# Altium schematic symbol library ADP_MyLib.SchLib: 203 symbols (part 1 of 4)
Pins are listed as number, name and electrical type; pins without a type are passive.

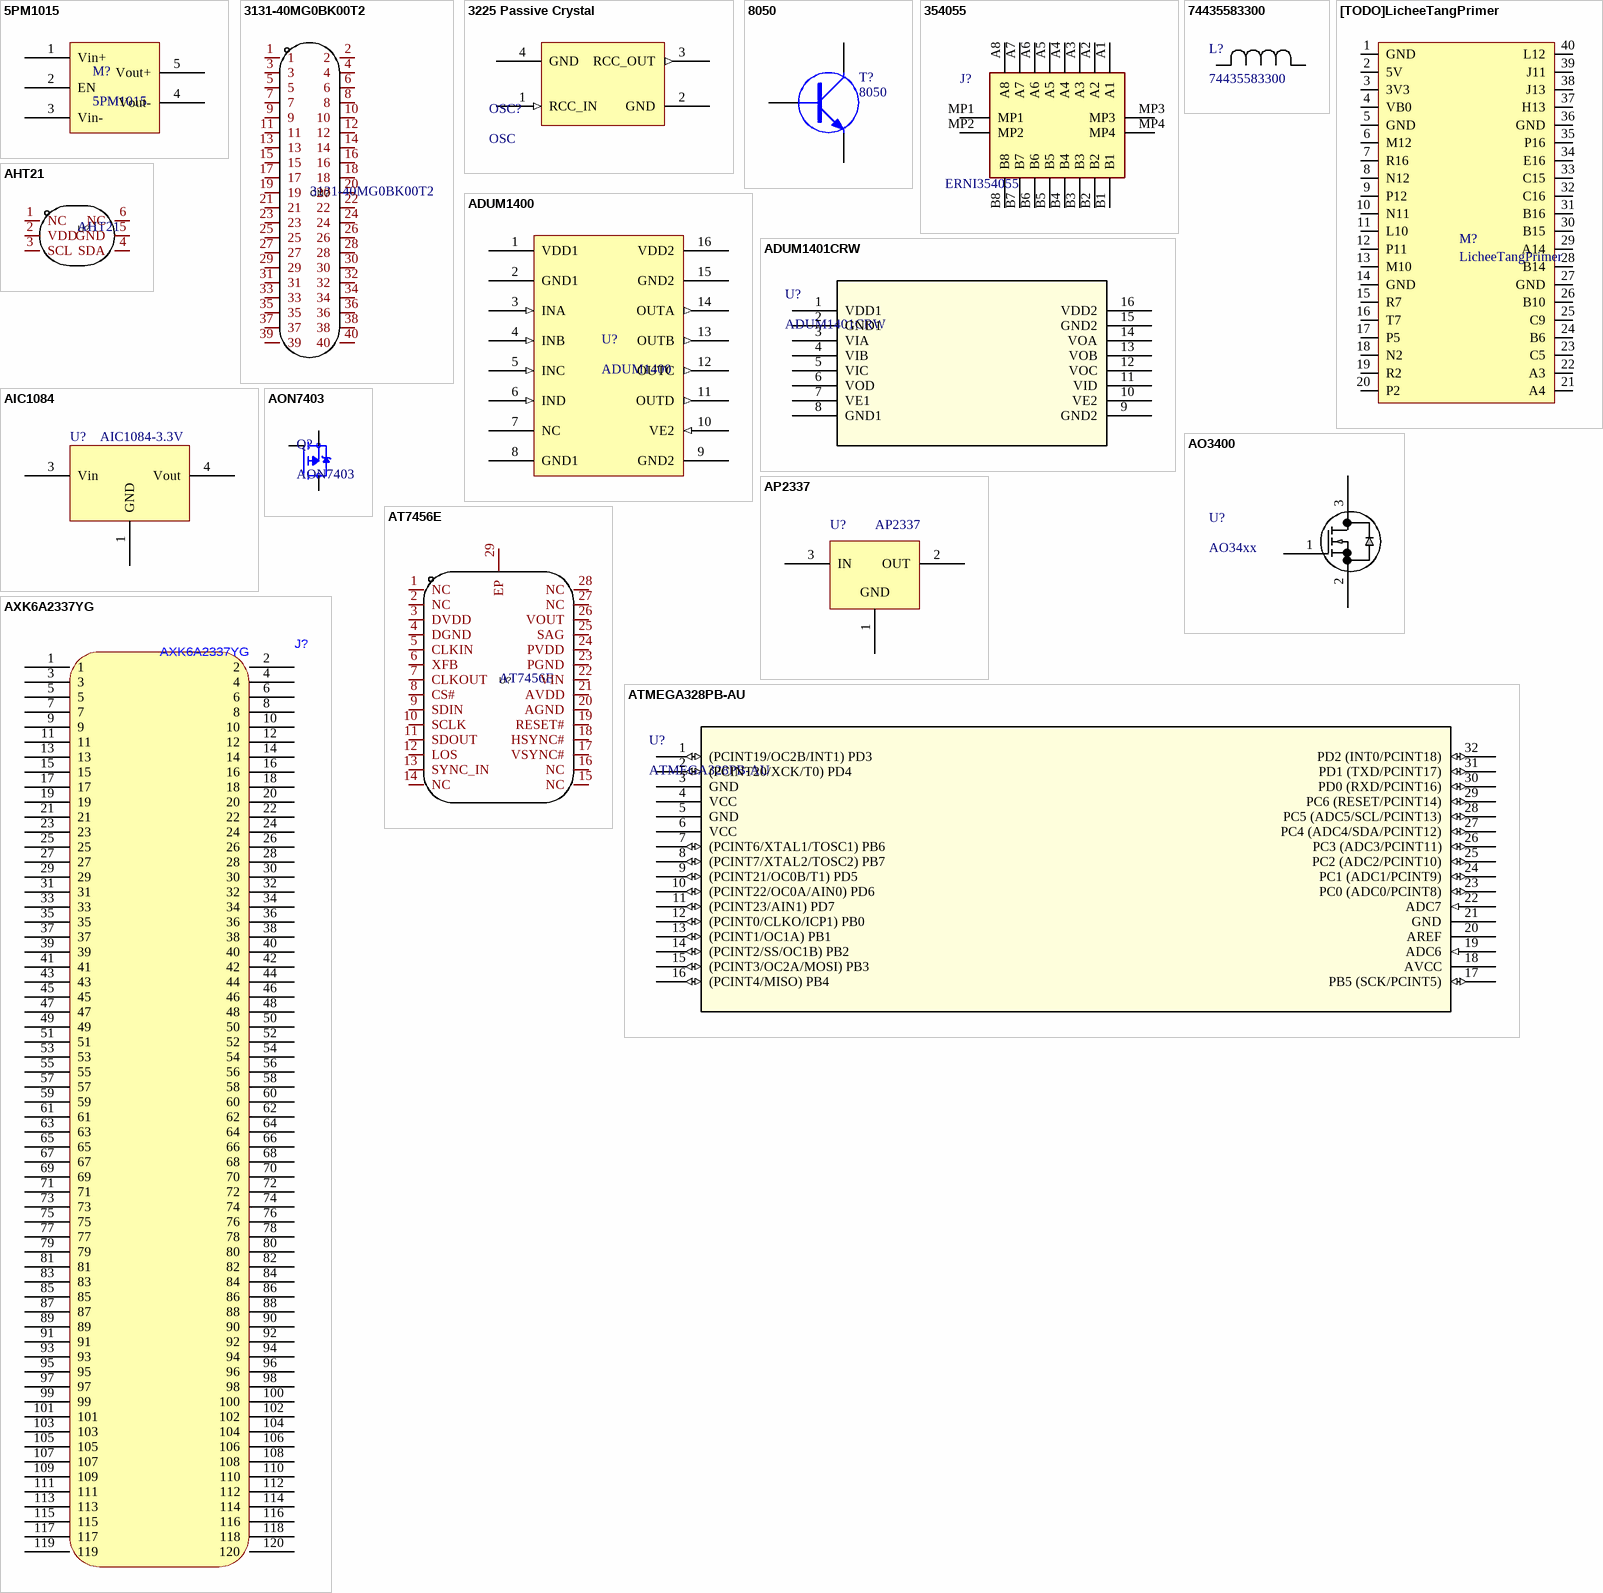
[diagram p0: symbols 5PM1015 to AXK6A2337YG]

## 5PM1015
designator M?
5A输出电源模块
footprint 5PM1015 (5A输出电源模块)
pins: 1 Vin+, 2 EN, 3 Vin-, 4 Vout-, 5 Vout+

## 3131-40MG0BK00T2
designator CN?
2X20P BTB; Manufacturer: Wcon(维峰电子); Add into BOM: yes; Connector Type: 简牛座; Pitch: 1.27mm; Current Rating (Max): 1A; Holder Type: 立贴; Pin Number in each Row: 20; Symbol: 3131-40MG0BK00T2; Device: 3131-40MG0BK00T2; Supplier: LCSC; Supplier Part: C976753; Manufacturer Part: 3131-40MG0BK00T2; JLCPCB Part Class: Extended Part; LCSC Part Name: 1.27mm 2x20P 排数:2 每排P数:20; Supplier Footprint: SMD,P=1.27mm; Datasheet: https://atta.szlcsc.com/upload/public/pdf/source/20211202/B702BBAB0AED51B28E1877A6EDDD5ECD.pdf; Convert to PCB: yes; Structure: 2x20P; Voltage Rating (Max): -; Row Spacing: 1.27mm; Number of Rows: 2; Operating Temperature Range: -40℃~+105℃
footprint CONN-SMD_40P-P1.27_WCON_3131-40MG0BK00T2
pins: 1, 2, 3, 4, 5, 6, 7, 8, 9, 10, 11, 12, 13, 14, 15, 16, 17, 18, 19, 20, 21, 22, 23, 24, 25, 26, 27, 28, 29, 30, 31, 32, 33, 34, 35, 36, 37, 38, 39, 40

## 3225 Passive Crystal
designator OSC?, comment OSC
晶振
footprint SMD-3225
pins: 1 RCC_IN (in), 2 GND (power), 3 RCC_OUT (out), 4 GND (power)

## 8050
designator T?
NPN三极管
footprint TO92B
footprint SOT23-3L
pins: 1 B, 2 E, 3 C

## 354055
designator J?, comment ERNI354055
SMC Female Connector 16-pin, vertical, SMT; Manufacturer_Name: ERNI; Manufacturer_Part_Number: 354055; Geometry.Height: 6.55mm; Mouser Part Number: 305-354055; Mouser Price/Stock: https://www.mouser.co.uk/ProductDetail/ERNI/354055?qs=5HRuLjoIg%2FHZR%252BxuQao%2FQQ%3D%3D; Arrow Part Number: *; Arrow Price/Stock: *; Datasheet Link: https://www.erni.com/fileadmin/import/products/assets/DC0006573.PDF
footprint 354055
pins: A1, A2, A3, A4, A5, A6, A7, A8, B1, B2, B3, B4, B5, B6, B7, B8, MP1, MP2, MP3, MP4

## 74435583300
designator L?
Inductor; Mfr_Name: Wurth Electronics; Type: DEV; Copyright: Copyright (C) 2023 Ultra Librarian. All rights reserved.; Manufacturer_Part_Number: 74435583300; RefDes: RefDes
footprint IND_2212-WE-HCI_WRE
footprint IND_2212-WE-HCI_WRE-L
footprint IND_2212-WE-HCI_WRE-M
pins: 1, 2

## [TODO]LicheeTangPrimer
designator M?, comment LicheeTangPrimer
TANG-primer开发板
pins: 1 GND, 2 5V, 3 3V3, 4 VB0, 5 GND, 6 M12, 7 R16, 8 N12, 9 P12, 10 N11, 11 L10, 12 P11, 13 M10, 14 GND, 15 R7, 16 T7, 17 P5, 18 N2, 19 R2, 20 P2, 21 A4, 22 A3, 23 C5, 24 B6, 25 C9, 26 B10, 27 GND, 28 B14, 29 A14, 30 B15, 31 B16, 32 C16, 33 C15, 34 E16, 35 P16, 36 GND, 37 H13, 38 J13, 39 J11, 40 L12

## ADUM1400
designator U?
ISOW7840/ADUM1400数字隔离器
footprint ISOW7840 (SOIC, 16-Leads, Body 10.30x7.50mm, Pitch 1.27mm, IPC Medium Density)
pins: 1 VDD1 (power), 2 GND1 (power), 3 INA (in), 4 INB (in), 5 INC (in), 6 IND (in), 7 NC, 8 GND1 (power), 9 GND2 (power), 10 VE2 (in), 11 OUTD (out), 12 OUTC (out), 13 OUTB (out), 14 OUTA (out), 15 GND2 (power), 16 VDD2 (power)

## ADUM1401CRW
designator U?
ADUM1401数字隔离器; Mfr_Name: Analog Devices Inc; RefDes: RefDes; Type: Type
footprint RW_16_ADI
footprint RW_16_ADI-L
footprint RW_16_ADI-M
pins: 1 VDD1 (power), 2 GND1, 3 VIA, 4 VIB, 5 VIC, 6 VOD, 7 VE1, 8 GND1, 9 GND2, 10 VE2, 11 VID, 12 VOC, 13 VOB, 14 VOA, 15 GND2, 16 VDD2 (power)

## AHT21
designator U?
国产温湿度传感器; Manufacturer: 广州奥松; Add into BOM: yes; Symbol: AHT21; Device: AHT21; Supplier: LCSC; Supplier Part: C2827328; Manufacturer Part: AHT21; JLCPCB Part Class: Extended Part; LCSC Part Name: AHT21; Supplier Footprint: SMD-6P,3x3mm; Datasheet: https://atta.szlcsc.com/upload/public/pdf/source/20210416/C2827328_0E7E1F5A52E8C31F9EEA54660EEC8C04.pdf; Convert to PCB: yes
footprint SENSOR-SMD_L3.0-W3.0-P1.00-BR
pins: 1 NC, 2 VDD, 3 SCL, 4 SDA, 5 GND, 6 NC

## AIC1084
designator U?, comment AIC1084-3.3V
大功率LDO
footprint TO263-2
pins: 1 GND, 3 Vin, 4 Vout

## AO3400
designator U?, comment AO34xx
信号NMOS; Mfr_Name: onsemi; Manufacturer_Part_Number: BSS84LT1G; Copyright: Copyright (C) 2022 Ultra Librarian. All rights reserved.; RefDes: RefDes; Type: DEV
footprint SOT23-3L
pins: 1 G, 2 S, 3 D

## AON7403
designator Q?
P-Channel 30V 11A (Ta), 29A (Tc) 3.1W (Ta), 25W (Tc) Surface Mount 8-DFN (3x3); MF: Alpha & Omega Semiconductor Inc.; SnapEDA_Link: https://www.snapeda.com/parts/AON7403/Alpha%20&%20Omega%20Semiconductor%20Inc./view-part/5163826/?ref=snap; Check_prices: https://www.snapeda.com/parts/AON7403/Alpha%20&%20Omega%20Semiconductor%20Inc./view-part/5163826/?ref=eda; Digi-Key_Part_Number: 785-1303-1-ND; MP: AON7403; Value: *; Package: None
footprint TRANS_AON7403
pins: 1 S, 2 S, 3 S, 4 G, 5_8 D

## AP2337
designator U?
Load Switch
footprint SOT23-3L
pins: 1 GND, 2 OUT, 3 IN

## AT7456E
designator U?
模拟视频OSD芯片; Manufacturer: 杭州中科微; Add into BOM: yes; Symbol: AT7456E; Device: AT7456E; LCSC Part Name: AT7456E; Supplier Part: C82351; Manufacturer Part: AT7456E; Supplier Footprint: TSSOP-28-EP; JLCPCB Part Class: Extended Part; Datasheet: https://atta.szlcsc.com/upload/public/pdf/source/20180326/C82351_A40539A53E8345C88178541014FDE5FB.pdf; Supplier: LCSC; Convert to PCB: yes
footprint TSSOP-28_L9.7-W4.4-P0.65-LS6.4-BL-EP-2
pins: 1 NC, 2 NC, 3 DVDD, 4 DGND, 5 CLKIN, 6 XFB, 7 CLKOUT, 8 CS#, 9 SDIN, 10 SCLK, 11 SDOUT, 12 LOS, 13 SYNC_IN, 14 NC, 15 NC, 16 NC, 17 VSYNC#, 18 HSYNC#, 19 RESET#, 20 AGND, 21 AVDD, 22 VIN, 23 PGND, 24 PVDD, 25 SAG, 26 VOUT, 27 NC, 28 NC, 29 EP

## ATMEGA328PB-AU
designator U?
Arduino MCU; Mfr_Name: Microchip; Copyright: Copyright (C) 2023 Ultra Librarian. All rights reserved.; Manufacturer_Part_Number: ATMEGA328PB-AU; RefDes: RefDes; Type: DEV
footprint 32A_MCH
footprint 32A_MCH-L
footprint 32A_MCH-M
pins: 1 (PCINT19/OC2B/INT1) PD3 (io), 2 (PCINT20/XCK/T0) PD4 (io), 3 GND (power), 4 VCC (power), 5 GND (power), 6 VCC (power), 7 (PCINT6/XTAL1/TOSC1) PB6 (io), 8 (PCINT7/XTAL2/TOSC2) PB7 (io), 9 (PCINT21/OC0B/T1) PD5 (io), 10 (PCINT22/OC0A/AIN0) PD6 (io), 11 (PCINT23/AIN1) PD7 (io), 12 (PCINT0/CLKO/ICP1) PB0 (io), 13 (PCINT1/OC1A) PB1 (io), 14 (PCINT2/SS/OC1B) PB2 (io), 15 (PCINT3/OC2A/MOSI) PB3 (io), 16 (PCINT4/MISO) PB4 (io), 17 PB5 (SCK/PCINT5) (io), 18 AVCC (power), 19 ADC6 (in), 20 AREF, 21 GND (power), 22 ADC7 (in), 23 PC0 (ADC0/PCINT8) (io), 24 PC1 (ADC1/PCINT9) (io), 25 PC2 (ADC2/PCINT10) (io), 26 PC3 (ADC3/PCINT11) (io), 27 PC4 (ADC4/SDA/PCINT12) (io), 28 PC5 (ADC5/SCL/PCINT13) (io), 29 PC6 (RESET/PCINT14) (io), 30 PD0 (RXD/PCINT16) (io), 31 PD1 (TXD/PCINT17) (io), 32 PD2 (INT0/PCINT18) (io)

## AXK6A2337YG
designator J?
AXK6A2xx7YG-120PIN
footprint AXK6A2337YG
pins: 1, 2, 3, 4, 5, 6, 7, 8, 9, 10, 11, 12, 13, 14, 15, 16, 17, 18, 19, 20, 21, 22, 23, 24, 25, 26, 27, 28, 29, 30, 31, 32, 33, 34, 35, 36, 37, 38, 39, 40, 41, 42, 43, 44, 45, 46, 47, 48, 49, 50, 51, 52, 53, 54, 55, 56, 57, 58, 59, 60, 61, 62, 63, 64, 65, 66, 67, 68, 69, 70, 71, 72, 73, 74, 75, 76, 77, 78, 79, 80, 81, 82, 83, 84, 85, 86, 87, 88, 89, 90, 91, 92, 93, 94, 95, 96, 97, 98, 99, 100, 101, 102, 103, 104, 105, 106, 107, 108, 109, 110, 111, 112, 113, 114, 115, 116, 117, 118, 119, 120

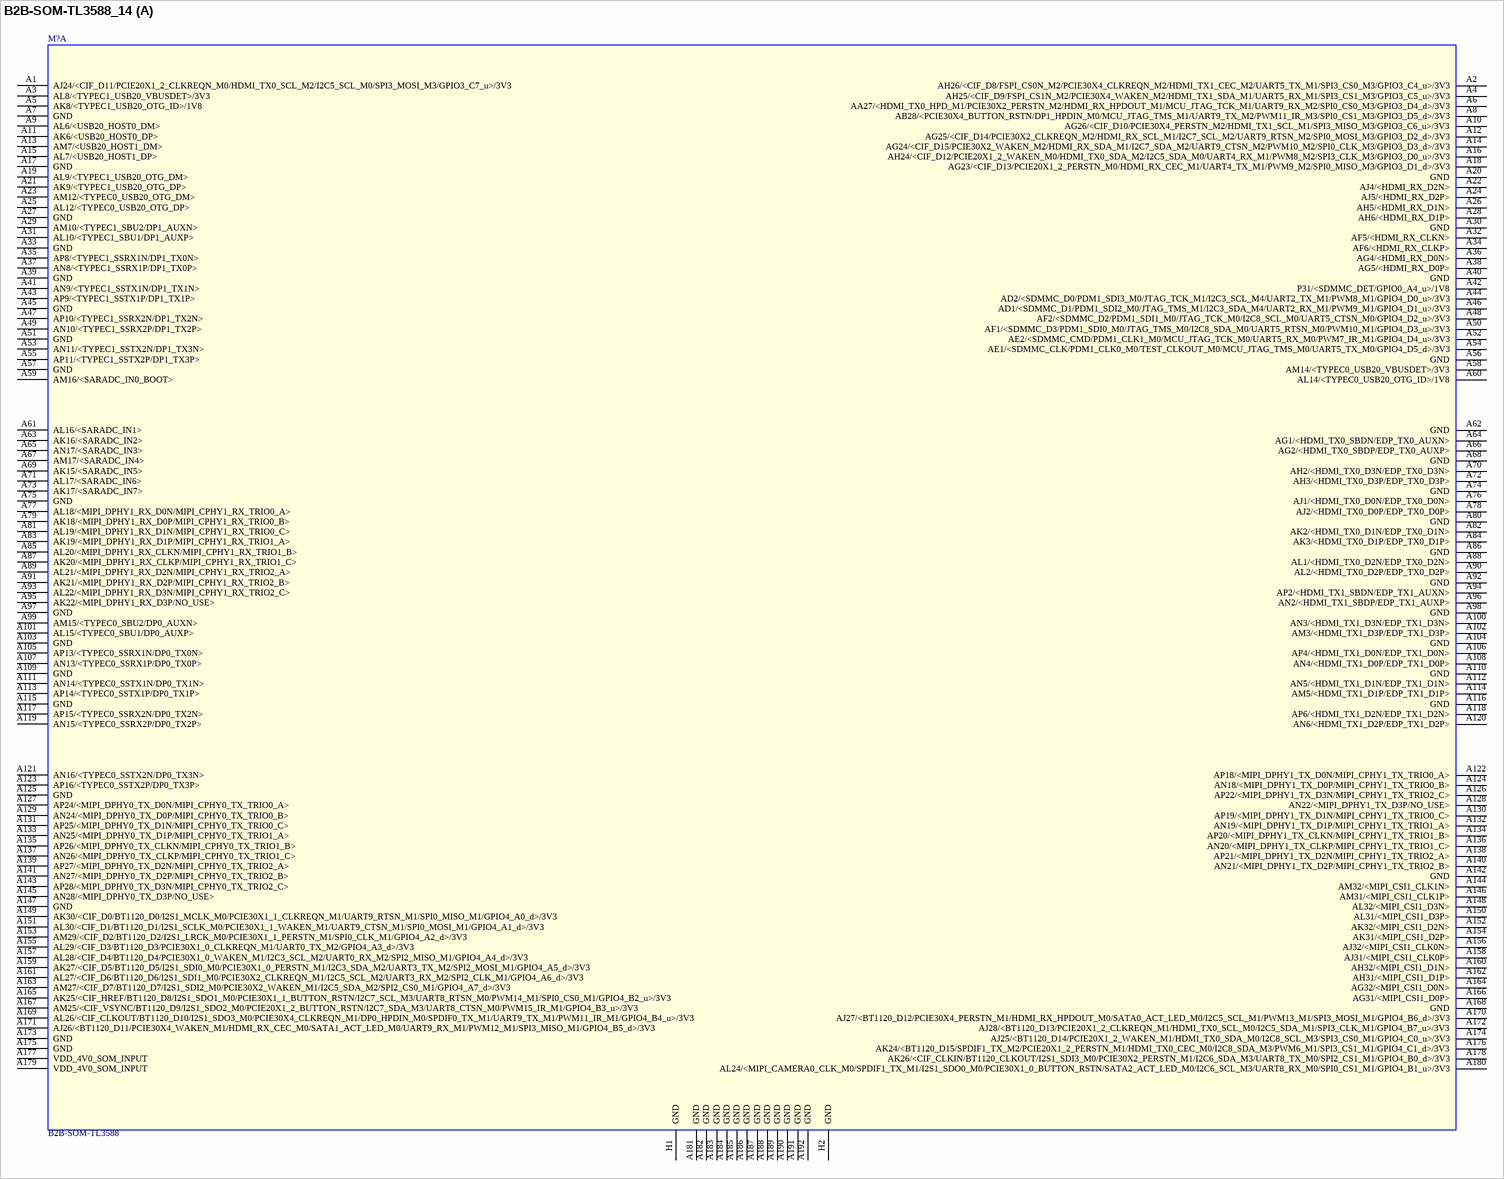
[diagram p1: symbol B2B-SOM-TL3588_14]

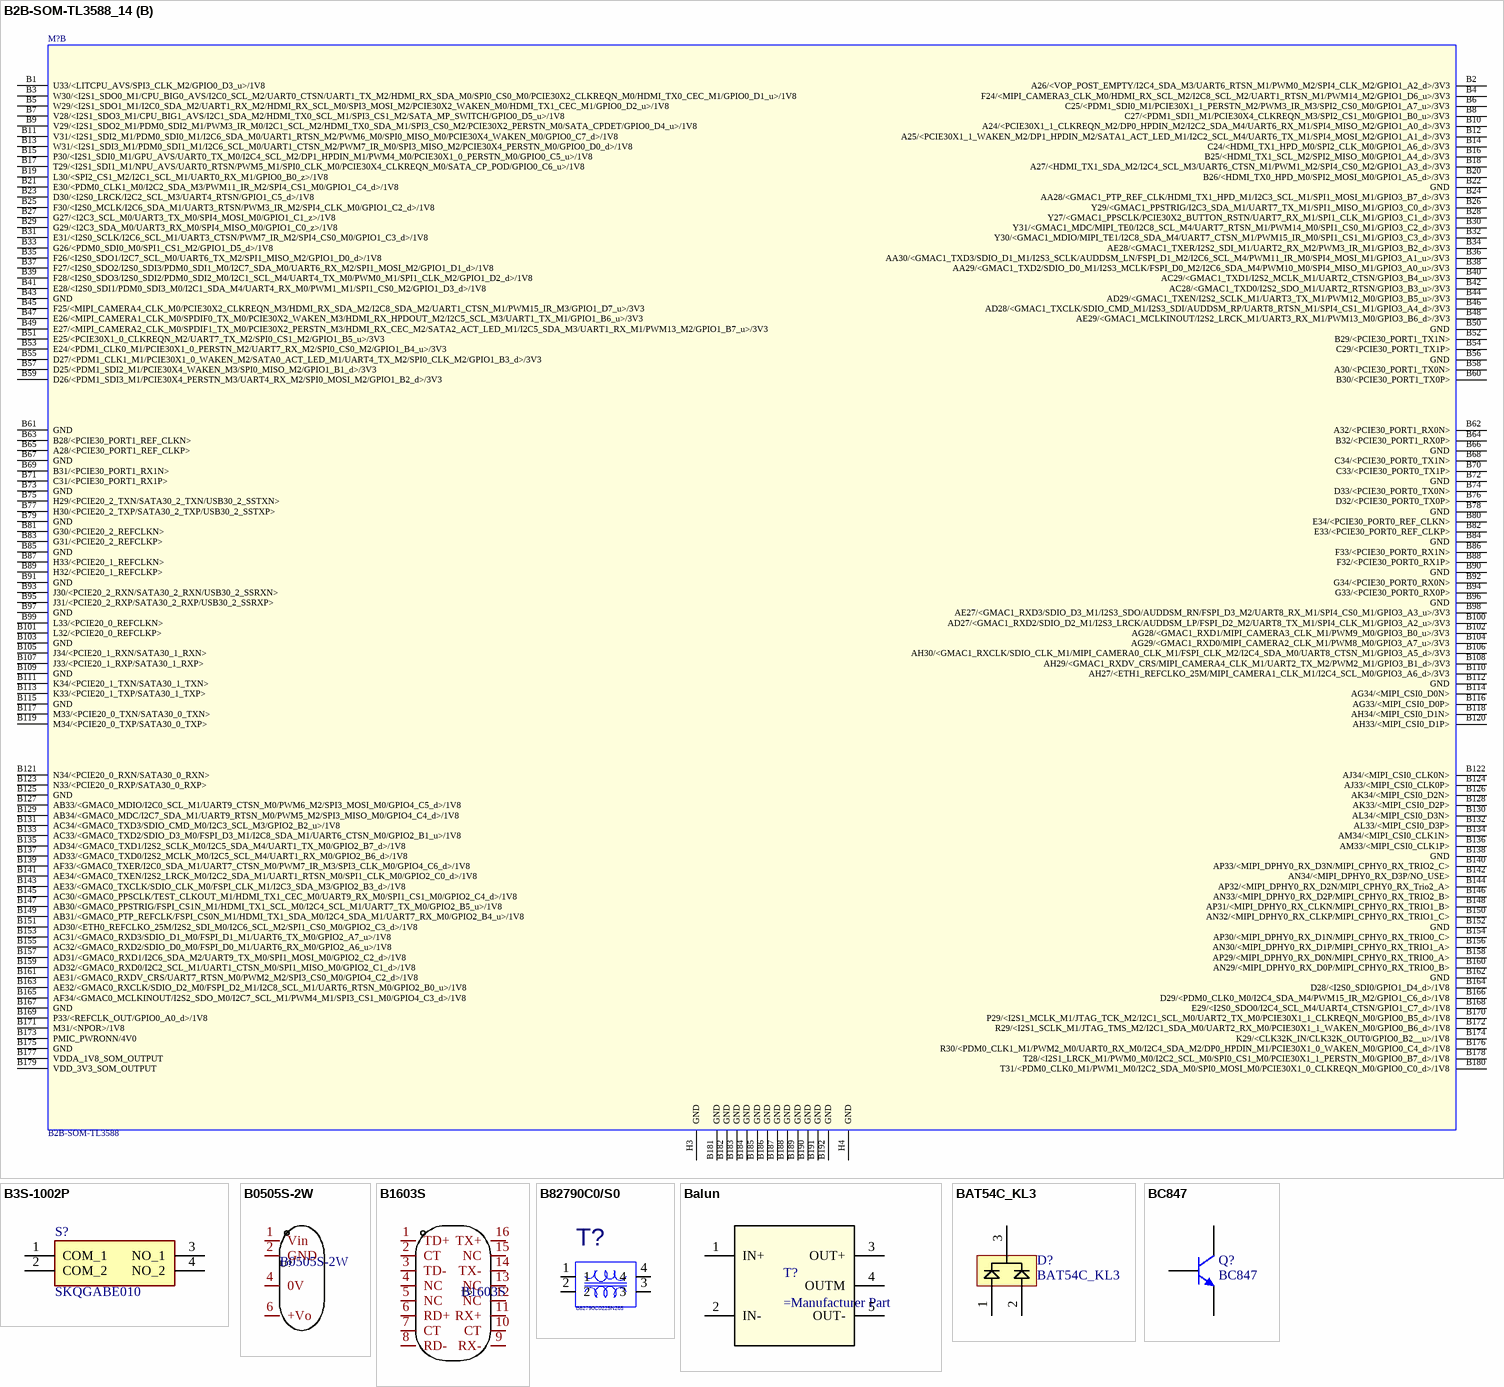
[diagram p2: symbols B2B-SOM-TL3588_14 to BC847]

## B2B-SOM-TL3588_14
designator M?, comment B2B-SOM-TL3588
180pin， 0.5mm间距，母座，公母座合高5mm; Manufacturer PartNumber: LXW232-4180S-B3R-01; Manufacturer: 深圳市连兴旺电子有限公司（LXW）; Manufacturer Character: 中国大陆; PCB Footprint: B2B-SOM-TL3588_2x180P; Operation Temperature（℃）: -55~125℃
footprint B2B-SOM-TL3588_2x180P
part A pins: A1 AJ24/<CIF_D11/PCIE20X1_2_CLKREQN_M0/HDMI_TX0_SCL_M2/I2C5_SCL_M0/SPI3_MOSI_M3/GPIO3_C7_u>/3V3, A2 AH26/<CIF_D8/FSPI_CS0N_M2/PCIE30X4_CLKREQN_M2/HDMI_TX1_CEC_M2/UART5_TX_M1/SPI3_CS0_M3/GPIO3_C4_u>/3V3, A3 AL8/<TYPEC1_USB20_VBUSDET>/3V3, A4 AH25/<CIF_D9/FSPI_CS1N_M2/PCIE30X4_WAKEN_M2/HDMI_TX1_SDA_M1/UART5_RX_M1/SPI3_CS1_M3/GPIO3_C5_u>/3V3, A5 AK8/<TYPEC1_USB20_OTG_ID>/1V8, A6 AA27/<HDMI_TX0_HPD_M1/PCIE30X2_PERSTN_M2/HDMI_RX_HPDOUT_M1/MCU_JTAG_TCK_M1/UART9_RX_M2/SPI0_CS0_M3/GPIO3_D4_d>/3V3, A7 GND (power), A8 AB28/<PCIE30X4_BUTTON_RSTN/DP1_HPDIN_M0/MCU_JTAG_TMS_M1/UART9_TX_M2/PWM11_IR_M3/SPI0_CS1_M3/GPIO3_D5_d>/3V3, A9 AL6/<USB20_HOST0_DM>, A10 AG26/<CIF_D10/PCIE30X4_PERSTN_M2/HDMI_TX1_SCL_M1/SPI3_MISO_M3/GPIO3_C6_u>/3V3, A11 AK6/<USB20_HOST0_DP>, A12 AG25/<CIF_D14/PCIE30X2_CLKREQN_M2/HDMI_RX_SCL_M1/I2C7_SCL_M2/UART9_RTSN_M2/SPI0_MOSI_M3/GPIO3_D2_d>/3V3, A13 AM7/<USB20_HOST1_DM>, A14 AG24/<CIF_D15/PCIE30X2_WAKEN_M2/HDMI_RX_SDA_M1/I2C7_SDA_M2/UART9_CTSN_M2/PWM10_M2/SPI0_CLK_M3/GPIO3_D3_d>/3V3, A15 AL7/<USB20_HOST1_DP>, A16 AH24/<CIF_D12/PCIE20X1_2_WAKEN_M0/HDMI_TX0_SDA_M2/I2C5_SDA_M0/UART4_RX_M1/PWM8_M2/SPI3_CLK_M3/GPIO3_D0_u>/3V3, A17 GND (power), A18 AG23/<CIF_D13/PCIE20X1_2_PERSTN_M0/HDMI_RX_CEC_M1/UART4_TX_M1/PWM9_M2/SPI0_MISO_M3/GPIO3_D1_d>/3V3, A19 AL9/<TYPEC1_USB20_OTG_DM>, A20 GND (power), A21 AK9/<TYPEC1_USB20_OTG_DP>, A22 AJ4/<HDMI_RX_D2N>, A23 AM12/<TYPEC0_USB20_OTG_DM>, A24 AJ5/<HDMI_RX_D2P>, A25 AL12/<TYPEC0_USB20_OTG_DP>, A26 AH5/<HDMI_RX_D1N>, A27 GND (power), A28 AH6/<HDMI_RX_D1P>, A29 AM10/<TYPEC1_SBU2/DP1_AUXN>, A30 GND (power), A31 AL10/<TYPEC1_SBU1/DP1_AUXP>, A32 AF5/<HDMI_RX_CLKN>, A33 GND (power), A34 AF6/<HDMI_RX_CLKP>, A35 AP8/<TYPEC1_SSRX1N/DP1_TX0N>, A36 AG4/<HDMI_RX_D0N>, A37 AN8/<TYPEC1_SSRX1P/DP1_TX0P>, A38 AG5/<HDMI_RX_D0P>, A39 GND (power), A40 GND (power), A41 AN9/<TYPEC1_SSTX1N/DP1_TX1N>, A42 P31/<SDMMC_DET/GPIO0_A4_u>/1V8, A43 AP9/<TYPEC1_SSTX1P/DP1_TX1P>, A44 AD2/<SDMMC_D0/PDM1_SDI3_M0/JTAG_TCK_M1/I2C3_SCL_M4/UART2_TX_M1/PWM8_M1/GPIO4_D0_u>/3V3, A45 GND (power), A46 AD1/<SDMMC_D1/PDM1_SDI2_M0/JTAG_TMS_M1/I2C3_SDA_M4/UART2_RX_M1/PWM9_M1/GPIO4_D1_u>/3V3, A47 AP10/<TYPEC1_SSRX2N/DP1_TX2N>, A48 AF2/<SDMMC_D2/PDM1_SDI1_M0/JTAG_TCK_M0/I2C8_SCL_M0/UART5_CTSN_M0/GPIO4_D2_u>/3V3, A49 AN10/<TYPEC1_SSRX2P/DP1_TX2P>, A50 AF1/<SDMMC_D3/PDM1_SDI0_M0/JTAG_TMS_M0/I2C8_SDA_M0/UART5_RTSN_M0/PWM10_M1/GPIO4_D3_u>/3V3, A51 GND (power), A52 AE2/<SDMMC_CMD/PDM1_CLK1_M0/MCU_JTAG_TCK_M0/UART5_RX_M0/PWM7_IR_M1/GPIO4_D4_u>/3V3, A53 AN11/<TYPEC1_SSTX2N/DP1_TX3N>, A54 AE1/<SDMMC_CLK/PDM1_CLK0_M0/TEST_CLKOUT_M0/MCU_JTAG_TMS_M0/UART5_TX_M0/GPIO4_D5_d>/3V3, A55 AP11/<TYPEC1_SSTX2P/DP1_TX3P>, A56 GND (power), A57 GND (power), A58 AM14/<TYPEC0_USB20_VBUSDET>/3V3, A59 AM16/<SARADC_IN0_BOOT>, A60 AL14/<TYPEC0_USB20_OTG_ID>/1V8, A61 AL16/<SARADC_IN1>, A62 GND (power), A63 AK16/<SARADC_IN2>, A64 AG1/<HDMI_TX0_SBDN/EDP_TX0_AUXN>, A65 AN17/<SARADC_IN3>, A66 AG2/<HDMI_TX0_SBDP/EDP_TX0_AUXP>, A67 AM17/<SARADC_IN4>, A68 GND (power), A69 AK15/<SARADC_IN5>, A70 AH2/<HDMI_TX0_D3N/EDP_TX0_D3N>, A71 AL17/<SARADC_IN6>, A72 AH3/<HDMI_TX0_D3P/EDP_TX0_D3P>, A73 AK17/<SARADC_IN7>, A74 GND (power), A75 GND (power), A76 AJ1/<HDMI_TX0_D0N/EDP_TX0_D0N>, A77 AL18/<MIPI_DPHY1_RX_D0N/MIPI_CPHY1_RX_TRIO0_A>, A78 AJ2/<HDMI_TX0_D0P/EDP_TX0_D0P>, A79 AK18/<MIPI_DPHY1_RX_D0P/MIPI_CPHY1_RX_TRIO0_B>, A80 GND (power), A81 AL19/<MIPI_DPHY1_RX_D1N/MIPI_CPHY1_RX_TRIO0_C>, A82 AK2/<HDMI_TX0_D1N/EDP_TX0_D1N>, A83 AK19/<MIPI_DPHY1_RX_D1P/MIPI_CPHY1_RX_TRIO1_A>, A84 AK3/<HDMI_TX0_D1P/EDP_TX0_D1P>, A85 AL20/<MIPI_DPHY1_RX_CLKN/MIPI_CPHY1_RX_TRIO1_B>, A86 GND (power), A87 AK20/<MIPI_DPHY1_RX_CLKP/MIPI_CPHY1_RX_TRIO1_C>, A88 AL1/<HDMI_TX0_D2N/EDP_TX0_D2N>, A89 AL21/<MIPI_DPHY1_RX_D2N/MIPI_CPHY1_RX_TRIO2_A>, A90 AL2/<HDMI_TX0_D2P/EDP_TX0_D2P>, A91 AK21/<MIPI_DPHY1_RX_D2P/MIPI_CPHY1_RX_TRIO2_B>, A92 GND (power), A93 AL22/<MIPI_DPHY1_RX_D3N/MIPI_CPHY1_RX_TRIO2_C>, A94 AP2/<HDMI_TX1_SBDN/EDP_TX1_AUXN>, A95 AK22/<MIPI_DPHY1_RX_D3P/NO_USE>, A96 AN2/<HDMI_TX1_SBDP/EDP_TX1_AUXP>, A97 GND (power), A98 GND (power), A99 AM15/<TYPEC0_SBU2/DP0_AUXN>, A100 AN3/<HDMI_TX1_D3N/EDP_TX1_D3N>, A101 AL15/<TYPEC0_SBU1/DP0_AUXP>, A102 AM3/<HDMI_TX1_D3P/EDP_TX1_D3P>, A103 GND (power), A104 GND (power), A105 AP13/<TYPEC0_SSRX1N/DP0_TX0N>, A106 AP4/<HDMI_TX1_D0N/EDP_TX1_D0N>, A107 AN13/<TYPEC0_SSRX1P/DP0_TX0P>, A108 AN4/<HDMI_TX1_D0P/EDP_TX1_D0P>, A109 GND (power), A110 GND (power), A111 AN14/<TYPEC0_SSTX1N/DP0_TX1N>, A112 AN5/<HDMI_TX1_D1N/EDP_TX1_D1N>, A113 AP14/<TYPEC0_SSTX1P/DP0_TX1P>, A114 AM5/<HDMI_TX1_D1P/EDP_TX1_D1P>, A115 GND (power), A116 GND (power), A117 AP15/<TYPEC0_SSRX2N/DP0_TX2N>, A118 AP6/<HDMI_TX1_D2N/EDP_TX1_D2N>, A119 AN15/<TYPEC0_SSRX2P/DP0_TX2P>, A120 AN6/<HDMI_TX1_D2P/EDP_TX1_D2P>, A121 AN16/<TYPEC0_SSTX2N/DP0_TX3N>, A122 AP18/<MIPI_DPHY1_TX_D0N/MIPI_CPHY1_TX_TRIO0_A>, A123 AP16/<TYPEC0_SSTX2P/DP0_TX3P>, A124 AN18/<MIPI_DPHY1_TX_D0P/MIPI_CPHY1_TX_TRIO0_B>, A125 GND (power), A126 AP22/<MIPI_DPHY1_TX_D3N/MIPI_CPHY1_TX_TRIO2_C>, A127 AP24/<MIPI_DPHY0_TX_D0N/MIPI_CPHY0_TX_TRIO0_A>, A128 AN22/<MIPI_DPHY1_TX_D3P/NO_USE>, A129 AN24/<MIPI_DPHY0_TX_D0P/MIPI_CPHY0_TX_TRIO0_B>, A130 AP19/<MIPI_DPHY1_TX_D1N/MIPI_CPHY1_TX_TRIO0_C>, A131 AP25/<MIPI_DPHY0_TX_D1N/MIPI_CPHY0_TX_TRIO0_C>, A132 AN19/<MIPI_DPHY1_TX_D1P/MIPI_CPHY1_TX_TRIO1_A>, A133 AN25/<MIPI_DPHY0_TX_D1P/MIPI_CPHY0_TX_TRIO1_A>, A134 AP20/<MIPI_DPHY1_TX_CLKN/MIPI_CPHY1_TX_TRIO1_B>, A135 AP26/<MIPI_DPHY0_TX_CLKN/MIPI_CPHY0_TX_TRIO1_B>, A136 AN20/<MIPI_DPHY1_TX_CLKP/MIPI_CPHY1_TX_TRIO1_C>, A137 AN26/<MIPI_DPHY0_TX_CLKP/MIPI_CPHY0_TX_TRIO1_C>, A138 AP21/<MIPI_DPHY1_TX_D2N/MIPI_CPHY1_TX_TRIO2_A>, A139 AP27/<MIPI_DPHY0_TX_D2N/MIPI_CPHY0_TX_TRIO2_A>, A140 AN21/<MIPI_DPHY1_TX_D2P/MIPI_CPHY1_TX_TRIO2_B>, A141 AN27/<MIPI_DPHY0_TX_D2P/MIPI_CPHY0_TX_TRIO2_B>, A142 GND (power), A143 AP28/<MIPI_DPHY0_TX_D3N/MIPI_CPHY0_TX_TRIO2_C>, A144 AM32/<MIPI_CSI1_CLK1N>, A145 AN28/<MIPI_DPHY0_TX_D3P/NO_USE>, A146 AM31/<MIPI_CSI1_CLK1P>, A147 GND (power), A148 AL32/<MIPI_CSI1_D3N>, A149 AK30/<CIF_D0/BT1120_D0/I2S1_MCLK_M0/PCIE30X1_1_CLKREQN_M1/UART9_RTSN_M1/SPI0_MISO_M1/GPIO4_A0_d>/3V3, A150 AL31/<MIPI_CSI1_D3P>, A151 AL30/<CIF_D1/BT1120_D1/I2S1_SCLK_M0/PCIE30X1_1_WAKEN_M1/UART9_CTSN_M1/SPI0_MOSI_M1/GPIO4_A1_d>/3V3, A152 AK32/<MIPI_CSI1_D2N>, A153 AM29/<CIF_D2/BT1120_D2/I2S1_LRCK_M0/PCIE30X1_1_PERSTN_M1/SPI0_CLK_M1/GPIO4_A2_d>/3V3, A154 AK31/<MIPI_CSI1_D2P>, A155 AL29/<CIF_D3/BT1120_D3/PCIE30X1_0_CLKREQN_M1/UART0_TX_M2/GPIO4_A3_d>/3V3, A156 AJ32/<MIPI_CSI1_CLK0N>, A157 AL28/<CIF_D4/BT1120_D4/PCIE30X1_0_WAKEN_M1/I2C3_SCL_M2/UART0_RX_M2/SPI2_MISO_M1/GPIO4_A4_d>/3V3, A158 AJ31/<MIPI_CSI1_CLK0P>, A159 AK27/<CIF_D5/BT1120_D5/I2S1_SDI0_M0/PCIE30X1_0_PERSTN_M1/I2C3_SDA_M2/UART3_TX_M2/SPI2_MOSI_M1/GPIO4_A5_d>/3V3, A160 AH32/<MIPI_CSI1_D1N>, A161 AL27/<CIF_D6/BT1120_D6/I2S1_SDI1_M0/PCIE30X2_CLKREQN_M1/I2C5_SCL_M2/UART3_RX_M2/SPI2_CLK_M1/GPIO4_A6_d>/3V3, A162 AH31/<MIPI_CSI1_D1P>, A163 AM27/<CIF_D7/BT1120_D7/I2S1_SDI2_M0/PCIE30X2_WAKEN_M1/I2C5_SDA_M2/SPI2_CS0_M1/GPIO4_A7_d>/3V3, A164 AG32/<MIPI_CSI1_D0N>, A165 AK25/<CIF_HREF/BT1120_D8/I2S1_SDO1_M0/PCIE30X1_1_BUTTON_RSTN/I2C7_SCL_M3/UART8_RTSN_M0/PWM14_M1/SPI0_CS0_M1/GPIO4_B2_u>/3V3, A166 AG31/<MIPI_CSI1_D0P>, A167 AM25/<CIF_VSYNC/BT1120_D9/I2S1_SDO2_M0/PCIE20X1_2_BUTTON_RSTN/I2C7_SDA_M3/UART8_CTSN_M0/PWM15_IR_M1/GPIO4_B3_u>/3V3, A168 GND (power), A169 AL26/<CIF_CLKOUT/BT1120_D10/I2S1_SDO3_M0/PCIE30X4_CLKREQN_M1/DP0_HPDIN_M0/SPDIF0_TX_M1/UART9_TX_M1/PWM11_IR_M1/GPIO4_B4_u>/3V3, A170 AJ27/<BT1120_D12/PCIE30X4_PERSTN_M1/HDMI_RX_HPDOUT_M0/SATA0_ACT_LED_M0/I2C5_SCL_M1/PWM13_M1/SPI3_MOSI_M1/GPIO4_B6_d>/3V3, A171 AJ26/<BT1120_D11/PCIE30X4_WAKEN_M1/HDMI_RX_CEC_M0/SATA1_ACT_LED_M0/UART9_RX_M1/PWM12_M1/SPI3_MISO_M1/GPIO4_B5_d>/3V3, A172 AJ28/<BT1120_D13/PCIE20X1_2_CLKREQN_M1/HDMI_TX0_SCL_M0/I2C5_SDA_M1/SPI3_CLK_M1/GPIO4_B7_u>/3V3, A173 GND (power), A174 AJ25/<BT1120_D14/PCIE20X1_2_WAKEN_M1/HDMI_TX0_SDA_M0/I2C8_SCL_M3/SPI3_CS0_M1/GPIO4_C0_u>/3V3, A175 GND (power), A176 AK24/<BT1120_D15/SPDIF1_TX_M2/PCIE20X1_2_PERSTN_M1/HDMI_TX0_CEC_M0/I2C8_SDA_M3/PWM6_M1/SPI3_CS1_M1/GPIO4_C1_d>/3V3, A177 VDD_4V0_SOM_INPUT (power), A178 AK26/<CIF_CLKIN/BT1120_CLKOUT/I2S1_SDI3_M0/PCIE30X2_PERSTN_M1/I2C6_SDA_M3/UART8_TX_M0/SPI2_CS1_M1/GPIO4_B0_d>/3V3, A179 VDD_4V0_SOM_INPUT (power), A180 AL24/<MIPI_CAMERA0_CLK_M0/SPDIF1_TX_M1/I2S1_SDO0_M0/PCIE30X1_0_BUTTON_RSTN/SATA2_ACT_LED_M0/I2C6_SCL_M3/UART8_RX_M0/SPI0_CS1_M1/GPIO4_B1_u>/3V3, A181 GND (power), A182 GND (power), A183 GND (power), A184 GND (power), A185 GND (power), A186 GND (power), A187 GND (power), A188 GND (power), A189 GND (power), A190 GND (power), A191 GND (power), A192 GND (power), H1 GND (power), H2 GND (power)
part B pins: B1 U33/<LITCPU_AVS/SPI3_CLK_M2/GPIO0_D3_u>/1V8, B2 A26/<VOP_POST_EMPTY/I2C4_SDA_M3/UART6_RTSN_M1/PWM0_M2/SPI4_CLK_M2/GPIO1_A2_d>/3V3, B3 W30/<I2S1_SDO0_M1/CPU_BIG0_AVS/I2C0_SCL_M2/UART0_CTSN/UART1_TX_M2/HDMI_RX_SDA_M0/SPI0_CS0_M0/PCIE30X2_CLKREQN_M0/HDMI_TX0_CEC_M1/GPIO0_D1_u>/1V8, B4 F24/<MIPI_CAMERA3_CLK_M0/HDMI_RX_SCL_M2/I2C8_SCL_M2/UART1_RTSN_M1/PWM14_M2/GPIO1_D6_u>/3V3, B5 W29/<I2S1_SDO1_M1/I2C0_SDA_M2/UART1_RX_M2/HDMI_RX_SCL_M0/SPI3_MOSI_M2/PCIE30X2_WAKEN_M0/HDMI_TX1_CEC_M1/GPIO0_D2_u>/1V8, B6 C25/<PDM1_SDI0_M1/PCIE30X1_1_PERSTN_M2/PWM3_IR_M3/SPI2_CS0_M0/GPIO1_A7_u>/3V3, B7 V28/<I2S1_SDO3_M1/CPU_BIG1_AVS/I2C1_SDA_M2/HDMI_TX0_SCL_M1/SPI3_CS1_M2/SATA_MP_SWITCH/GPIO0_D5_u>/1V8, B8 C27/<PDM1_SDI1_M1/PCIE30X4_CLKREQN_M3/SPI2_CS1_M0/GPIO1_B0_u>/3V3, B9 V29/<I2S1_SDO2_M1/PDM0_SDI2_M1/PWM3_IR_M0/I2C1_SCL_M2/HDMI_TX0_SDA_M1/SPI3_CS0_M2/PCIE30X2_PERSTN_M0/SATA_CPDET/GPIO0_D4_u>/1V8, B10 A24/<PCIE30X1_1_CLKREQN_M2/DP0_HPDIN_M2/I2C2_SDA_M4/UART6_RX_M1/SPI4_MISO_M2/GPIO1_A0_d>/3V3, B11 V31/<I2S1_SDI2_M1/PDM0_SDI0_M1/I2C6_SDA_M0/UART1_RTSN_M2/PWM6_M0/SPI0_MISO_M0/PCIE30X4_WAKEN_M0/GPIO0_C7_d>/1V8, B12 A25/<PCIE30X1_1_WAKEN_M2/DP1_HPDIN_M2/SATA1_ACT_LED_M1/I2C2_SCL_M4/UART6_TX_M1/SPI4_MOSI_M2/GPIO1_A1_d>/3V3, B13 W31/<I2S1_SDI3_M1/PDM0_SDI1_M1/I2C6_SCL_M0/UART1_CTSN_M2/PWM7_IR_M0/SPI3_MISO_M2/PCIE30X4_PERSTN_M0/GPIO0_D0_d>/1V8, B14 C24/<HDMI_TX1_HPD_M0/SPI2_CLK_M0/GPIO1_A6_d>/3V3, B15 P30/<I2S1_SDI0_M1/GPU_AVS/UART0_TX_M0/I2C4_SCL_M2/DP1_HPDIN_M1/PWM4_M0/PCIE30X1_0_PERSTN_M0/GPIO0_C5_u>/1V8, B16 B25/<HDMI_TX1_SCL_M2/SPI2_MISO_M0/GPIO1_A4_d>/3V3, B17 T29/<I2S1_SDI1_M1/NPU_AVS/UART0_RTSN/PWM5_M1/SPI0_CLK_M0/PCIE30X4_CLKREQN_M0/SATA_CP_POD/GPIO0_C6_u>/1V8, B18 A27/<HDMI_TX1_SDA_M2/I2C4_SCL_M3/UART6_CTSN_M1/PWM1_M2/SPI4_CS0_M2/GPIO1_A3_d>/3V3, B19 L30/<SPI2_CS1_M2/I2C1_SCL_M1/UART0_RX_M1/GPIO0_B0_z>/1V8, B20 B26/<HDMI_TX0_HPD_M0/SPI2_MOSI_M0/GPIO1_A5_d>/3V3, B21 E30/<PDM0_CLK1_M0/I2C2_SDA_M3/PWM11_IR_M2/SPI4_CS1_M0/GPIO1_C4_d>/1V8, B22 GND (power), B23 D30/<I2S0_LRCK/I2C2_SCL_M3/UART4_RTSN/GPIO1_C5_d>/1V8, B24 AA28/<GMAC1_PTP_REF_CLK/HDMI_TX1_HPD_M1/I2C3_SCL_M1/SPI1_MOSI_M1/GPIO3_B7_d>/3V3, B25 F30/<I2S0_MCLK/I2C6_SDA_M1/UART3_RTSN/PWM3_IR_M2/SPI4_CLK_M0/GPIO1_C2_d>/1V8, B26 Y29/<GMAC1_PPSTRIG/I2C3_SDA_M1/UART7_TX_M1/SPI1_MISO_M1/GPIO3_C0_d>/3V3, B27 G27/<I2C3_SCL_M0/UART3_TX_M0/SPI4_MOSI_M0/GPIO1_C1_z>/1V8, B28 Y27/<GMAC1_PPSCLK/PCIE30X2_BUTTON_RSTN/UART7_RX_M1/SPI1_CLK_M1/GPIO3_C1_d>/3V3, B29 G29/<I2C3_SDA_M0/UART3_RX_M0/SPI4_MISO_M0/GPIO1_C0_z>/1V8, B30 Y31/<GMAC1_MDC/MIPI_TE0/I2C8_SCL_M4/UART7_RTSN_M1/PWM14_M0/SPI1_CS0_M1/GPIO3_C2_d>/3V3, B31 E31/<I2S0_SCLK/I2C6_SCL_M1/UART3_CTSN/PWM7_IR_M2/SPI4_CS0_M0/GPIO1_C3_d>/1V8, B32 Y30/<GMAC1_MDIO/MIPI_TE1/I2C8_SDA_M4/UART7_CTSN_M1/PWM15_IR_M0/SPI1_CS1_M1/GPIO3_C3_d>/3V3, B33 G26/<PDM0_SDI0_M0/SPI1_CS1_M2/GPIO1_D5_d>/1V8, B34 AE28/<GMAC1_TXER/I2S2_SDI_M1/UART2_RX_M2/PWM3_IR_M1/GPIO3_B2_d>/3V3, B35 F26/<I2S0_SDO1/I2C7_SCL_M0/UART6_TX_M2/SPI1_MISO_M2/GPIO1_D0_d>/1V8, B36 AA30/<GMAC1_TXD3/SDIO_D1_M1/I2S3_SCLK/AUDDSM_LN/FSPI_D1_M2/I2C6_SCL_M4/PWM11_IR_M0/SPI4_MOSI_M1/GPIO3_A1_u>/3V3, B37 F27/<I2S0_SDO2/I2S0_SDI3/PDM0_SDI1_M0/I2C7_SDA_M0/UART6_RX_M2/SPI1_MOSI_M2/GPIO1_D1_d>/1V8, B38 AA29/<GMAC1_TXD2/SDIO_D0_M1/I2S3_MCLK/FSPI_D0_M2/I2C6_SDA_M4/PWM10_M0/SPI4_MISO_M1/GPIO3_A0_u>/3V3, B39 F28/<I2S0_SDO3/I2S0_SDI2/PDM0_SDI2_M0/I2C1_SCL_M4/UART4_TX_M0/PWM0_M1/SPI1_CLK_M2/GPIO1_D2_d>/1V8, B40 AC29/<GMAC1_TXD1/I2S2_MCLK_M1/UART2_CTSN/GPIO3_B4_u>/3V3, B41 E28/<I2S0_SDI1/PDM0_SDI3_M0/I2C1_SDA_M4/UART4_RX_M0/PWM1_M1/SPI1_CS0_M2/GPIO1_D3_d>/1V8, B42 AC28/<GMAC1_TXD0/I2S2_SDO_M1/UART2_RTSN/GPIO3_B3_u>/3V3, B43 GND (power), B44 AD29/<GMAC1_TXEN/I2S2_SCLK_M1/UART3_TX_M1/PWM12_M0/GPIO3_B5_u>/3V3, B45 F25/<MIPI_CAMERA4_CLK_M0/PCIE30X2_CLKREQN_M3/HDMI_RX_SDA_M2/I2C8_SDA_M2/UART1_CTSN_M1/PWM15_IR_M3/GPIO1_D7_u>/3V3, B46 AD28/<GMAC1_TXCLK/SDIO_CMD_M1/I2S3_SDI/AUDDSM_RP/UART8_RTSN_M1/SPI4_CS1_M1/GPIO3_A4_d>/3V3, B47 E26/<MIPI_CAMERA1_CLK_M0/SPDIF0_TX_M0/PCIE30X2_WAKEN_M3/HDMI_RX_HPDOUT_M2/I2C5_SCL_M3/UART1_TX_M1/GPIO1_B6_u>/3V3, B48 AE29/<GMAC1_MCLKINOUT/I2S2_LRCK_M1/UART3_RX_M1/PWM13_M0/GPIO3_B6_d>/3V3, B49 E27/<MIPI_CAMERA2_CLK_M0/SPDIF1_TX_M0/PCIE30X2_PERSTN_M3/HDMI_RX_CEC_M2/SATA2_ACT_LED_M1/I2C5_SDA_M3/UART1_RX_M1/PWM13_M2/GPIO1_B7_u>/3V3, B50 GND (power), B51 E25/<PCIE30X1_0_CLKREQN_M2/UART7_TX_M2/SPI0_CS1_M2/GPIO1_B5_u>/3V3, B52 B29/<PCIE30_PORT1_TX1N>, B53 E24/<PDM1_CLK0_M1/PCIE30X1_0_PERSTN_M2/UART7_RX_M2/SPI0_CS0_M2/GPIO1_B4_u>/3V3, B54 C29/<PCIE30_PORT1_TX1P>, B55 D27/<PDM1_CLK1_M1/PCIE30X1_0_WAKEN_M2/SATA0_ACT_LED_M1/UART4_TX_M2/SPI0_CLK_M2/GPIO1_B3_d>/3V3, B56 GND (power), B57 D25/<PDM1_SDI2_M1/PCIE30X4_WAKEN_M3/SPI0_MISO_M2/GPIO1_B1_d>/3V3, B58 A30/<PCIE30_PORT1_TX0N>, B59 D26/<PDM1_SDI3_M1/PCIE30X4_PERSTN_M3/UART4_RX_M2/SPI0_MOSI_M2/GPIO1_B2_d>/3V3, B60 B30/<PCIE30_PORT1_TX0P>, B61 GND (power), B62 A32/<PCIE30_PORT1_RX0N>, B63 B28/<PCIE30_PORT1_REF_CLKN>, B64 B32/<PCIE30_PORT1_RX0P>, B65 A28/<PCIE30_PORT1_REF_CLKP>, B66 GND (power), B67 GND (power), B68 C34/<PCIE30_PORT0_TX1N>, B69 B31/<PCIE30_PORT1_RX1N>, B70 C33/<PCIE30_PORT0_TX1P>, B71 C31/<PCIE30_PORT1_RX1P>, B72 GND (power), B73 GND (power), B74 D33/<PCIE30_PORT0_TX0N>, B75 H29/<PCIE20_2_TXN/SATA30_2_TXN/USB30_2_SSTXN>, B76 D32/<PCIE30_PORT0_TX0P>, B77 H30/<PCIE20_2_TXP/SATA30_2_TXP/USB30_2_SSTXP>, B78 GND (power), B79 GND (power), B80 E34/<PCIE30_PORT0_REF_CLKN>, B81 G30/<PCIE20_2_REFCLKN>, B82 E33/<PCIE30_PORT0_REF_CLKP>, B83 G31/<PCIE20_2_REFCLKP>, B84 GND (power), B85 GND (power), B86 F33/<PCIE30_PORT0_RX1N>, B87 H33/<PCIE20_1_REFCLKN>, B88 F32/<PCIE30_PORT0_RX1P>, B89 H32/<PCIE20_1_REFCLKP>, B90 GND (power), B91 GND (power), B92 G34/<PCIE30_PORT0_RX0N>, B93 J30/<PCIE20_2_RXN/SATA30_2_RXN/USB30_2_SSRXN>, B94 G33/<PCIE30_PORT0_RX0P>, B95 J31/<PCIE20_2_RXP/SATA30_2_RXP/USB30_2_SSRXP>, B96 GND (power), B97 GND (power), B98 AE27/<GMAC1_RXD3/SDIO_D3_M1/I2S3_SDO/AUDDSM_RN/FSPI_D3_M2/UART8_RX_M1/SPI4_CS0_M1/GPIO3_A3_u>/3V3, B99 L33/<PCIE20_0_REFCLKN>, B100 AD27/<GMAC1_RXD2/SDIO_D2_M1/I2S3_LRCK/AUDDSM_LP/FSPI_D2_M2/UART8_TX_M1/SPI4_CLK_M1/GPIO3_A2_u>/3V3, B101 L32/<PCIE20_0_REFCLKP>, B102 AG28/<GMAC1_RXD1/MIPI_CAMERA3_CLK_M1/PWM9_M0/GPIO3_B0_u>/3V3, B103 GND (power), B104 AG29/<GMAC1_RXD0/MIPI_CAMERA2_CLK_M1/PWM8_M0/GPIO3_A7_u>/3V3, B105 J34/<PCIE20_1_RXN/SATA30_1_RXN>, B106 AH30/<GMAC1_RXCLK/SDIO_CLK_M1/MIPI_CAMERA0_CLK_M1/FSPI_CLK_M2/I2C4_SDA_M0/UART8_CTSN_M1/GPIO3_A5_d>/3V3 (power), B107 J33/<PCIE20_1_RXP/SATA30_1_RXP>, B108 AH29/<GMAC1_RXDV_CRS/MIPI_CAMERA4_CLK_M1/UART2_TX_M2/PWM2_M1/GPIO3_B1_d>/3V3, B109 GND (power), B110 AH27/<ETH1_REFCLKO_25M/MIPI_CAMERA1_CLK_M1/I2C4_SCL_M0/GPIO3_A6_d>/3V3, B111 K34/<PCIE20_1_TXN/SATA30_1_TXN>, B112 GND (power), B113 K33/<PCIE20_1_TXP/SATA30_1_TXP>, B114 AG34/<MIPI_CSI0_D0N>, B115 GND (power), B116 AG33/<MIPI_CSI0_D0P>, B117 M33/<PCIE20_0_TXN/SATA30_0_TXN>, B118 AH34/<MIPI_CSI0_D1N>, B119 M34/<PCIE20_0_TXP/SATA30_0_TXP>, B120 AH33/<MIPI_CSI0_D1P>, B121 N34/<PCIE20_0_RXN/SATA30_0_RXN>, B122 AJ34/<MIPI_CSI0_CLK0N>, B123 N33/<PCIE20_0_RXP/SATA30_0_RXP>, B124 AJ33/<MIPI_CSI0_CLK0P>, B125 GND (power), B126 AK34/<MIPI_CSI0_D2N>, B127 AB33/<GMAC0_MDIO/I2C0_SCL_M1/UART9_CTSN_M0/PWM6_M2/SPI3_MOSI_M0/GPIO4_C5_d>/1V8, B128 AK33/<MIPI_CSI0_D2P>, B129 AB34/<GMAC0_MDC/I2C7_SDA_M1/UART9_RTSN_M0/PWM5_M2/SPI3_MISO_M0/GPIO4_C4_d>/1V8, B130 AL34/<MIPI_CSI0_D3N>, B131 AC34/<GMAC0_TXD3/SDIO_CMD_M0/I2C3_SCL_M3/GPIO2_B2_u>/1V8, B132 AL33/<MIPI_CSI0_D3P>, B133 AC33/<GMAC0_TXD2/SDIO_D3_M0/FSPI_D3_M1/I2C8_SDA_M1/UART6_CTSN_M0/GPIO2_B1_u>/1V8, B134 AM34/<MIPI_CSI0_CLK1N>, B135 AD34/<GMAC0_TXD1/I2S2_SCLK_M0/I2C5_SDA_M4/UART1_TX_M0/GPIO2_B7_d>/1V8, B136 AM33/<MIPI_CSI0_CLK1P>, B137 AD33/<GMAC0_TXD0/I2S2_MCLK_M0/I2C5_SCL_M4/UART1_RX_M0/GPIO2_B6_d>/1V8, B138 GND (power), B139 AF33/<GMAC0_TXER/I2C0_SDA_M1/UART7_CTSN_M0/PWM7_IR_M3/SPI3_CLK_M0/GPIO4_C6_d>/1V8, B140 AP33/<MIPI_DPHY0_RX_D3N/MIPI_CPHY0_RX_TRIO2_C>, B141 AE34/<GMAC0_TXEN/I2S2_LRCK_M0/I2C2_SDA_M1/UART1_RTSN_M0/SPI1_CLK_M0/GPIO2_C0_d>/1V8, B142 AN34/<MIPI_DPHY0_RX_D3P/NO_USE>, B143 AE33/<GMAC0_TXCLK/SDIO_CLK_M0/FSPI_CLK_M1/I2C3_SDA_M3/GPIO2_B3_d>/1V8, B144 AP32/<MIPI_DPHY0_RX_D2N/MIPI_CPHY0_RX_Trio2_A>, B145 AC30/<GMAC0_PPSCLK/TEST_CLKOUT_M1/HDMI_TX1_CEC_M0/UART9_RX_M0/SPI1_CS1_M0/GPIO2_C4_d>/1V8, B146 AN33/<MIPI_DPHY0_RX_D2P/MIPI_CPHY0_RX_TRIO2_B>, B147 AB30/<GMAC0_PPSTRIG/FSPI_CS1N_M1/HDMI_TX1_SCL_M0/I2C4_SCL_M1/UART7_TX_M0/GPIO2_B5_u>/1V8, B148 AP31/<MIPI_DPHY0_RX_CLKN/MIPI_CPHY0_RX_TRIO1_B>, B149 AB31/<GMAC0_PTP_REFCLK/FSPI_CS0N_M1/HDMI_TX1_SDA_M0/I2C4_SDA_M1/UART7_RX_M0/GPIO2_B4_u>/1V8, B150 AN32/<MIPI_DPHY0_RX_CLKP/MIPI_CPHY0_RX_TRIO1_C>, B151 AD30/<ETH0_REFCLKO_25M/I2S2_SDI_M0/I2C6_SCL_M2/SPI1_CS0_M0/GPIO2_C3_d>/1V8, B152 GND (power), B153 AC31/<GMAC0_RXD3/SDIO_D1_M0/FSPI_D1_M1/UART6_TX_M0/GPIO2_A7_u>/1V8, B154 AP30/<MIPI_DPHY0_RX_D1N/MIPI_CPHY0_RX_TRIO0_C>, B155 AC32/<GMAC0_RXD2/SDIO_D0_M0/FSPI_D0_M1/UART6_RX_M0/GPIO2_A6_u>/1V8, B156 AN30/<MIPI_DPHY0_RX_D1P/MIPI_CPHY0_RX_TRIO1_A>, B157 AD31/<GMAC0_RXD1/I2C6_SDA_M2/UART9_TX_M0/SPI1_MOSI_M0/GPIO2_C2_d>/1V8, B158 AP29/<MIPI_DPHY0_RX_D0N/MIPI_CPHY0_RX_TRIO0_A>, B159 AD32/<GMAC0_RXD0/I2C2_SCL_M1/UART1_CTSN_M0/SPI1_MISO_M0/GPIO2_C1_d>/1V8, B160 AN29/<MIPI_DPHY0_RX_D0P/MIPI_CPHY0_RX_TRIO0_B>, B161 AE31/<GMAC0_RXDV_CRS/UART7_RTSN_M0/PWM2_M2/SPI3_CS0_M0/GPIO4_C2_d>/1V8, B162 GND (power), B163 AE32/<GMAC0_RXCLK/SDIO_D2_M0/FSPI_D2_M1/I2C8_SCL_M1/UART6_RTSN_M0/GPIO2_B0_u>/1V8, B164 D28/<I2S0_SDI0/GPIO1_D4_d>/1V8, B165 AF34/<GMAC0_MCLKINOUT/I2S2_SDO_M0/I2C7_SCL_M1/PWM4_M1/SPI3_CS1_M0/GPIO4_C3_d>/1V8, B166 D29/<PDM0_CLK0_M0/I2C4_SDA_M4/PWM15_IR_M2/GPIO1_C6_d>/1V8, B167 GND (power), B168 E29/<I2S0_SDO0/I2C4_SCL_M4/UART4_CTSN/GPIO1_C7_d>/1V8, B169 P33/<REFCLK_OUT/GPIO0_A0_d>/1V8, B170 P29/<I2S1_MCLK_M1/JTAG_TCK_M2/I2C1_SCL_M0/UART2_TX_M0/PCIE30X1_1_CLKREQN_M0/GPIO0_B5_d>/1V8, B171 M31/<NPOR>/1V8, B172 R29/<I2S1_SCLK_M1/JTAG_TMS_M2/I2C1_SDA_M0/UART2_RX_M0/PCIE30X1_1_WAKEN_M0/GPIO0_B6_d>/1V8, B173 PMIC_PWRONN/4V0, B174 K29/<CLK32K_IN/CLK32K_OUT0/GPIO0_B2__u>/1V8, B175 GND (power), B176 R30/<PDM0_CLK1_M1/PWM2_M0/UART0_RX_M0/I2C4_SDA_M2/DP0_HPDIN_M1/PCIE30X1_0_WAKEN_M0/GPIO0_C4_d>/1V8, B177 VDDA_1V8_SOM_OUTPUT (power), B178 T28/<I2S1_LRCK_M1/PWM0_M0/I2C2_SCL_M0/SPI0_CS1_M0/PCIE30X1_1_PERSTN_M0/GPIO0_B7_d>/1V8, B179 VDD_3V3_SOM_OUTPUT (power), B180 T31/<PDM0_CLK0_M1/PWM1_M0/I2C2_SDA_M0/SPI0_MOSI_M0/PCIE30X1_0_CLKREQN_M0/GPIO0_C0_d>/1V8, B181 GND (power), B182 GND (power), B183 GND (power), B184 GND (power), B185 GND (power), B186 GND (power), B187 GND (power), B188 GND (power), B189 GND (power), B190 GND (power), B191 GND (power), B192 GND (power), H3 GND (power), H4 GND (power)

## B3S-1002P
designator S?, comment SKQGABE010
微动开关; Manufacturer_Name: Omron Electronics; Manufacturer_Part_Number: B3S-1002P; Datasheet Link: https://componentsearchengine.com/Datasheets/1/B3S-1002P.pdf; Height: 4.3mm; Mouser Part Number: 653-B3S-1002P; Mouser Price/Stock: https://www.mouser.co.uk/ProductDetail/Omron-Electronics/B3S-1002P?qs=VO24nqdQNUCtpi6pYm2hHQ%3D%3D; Arrow Part Number: B3S-1002P; Arrow Price/Stock: https://www.arrow.com/en/products/b3s1002p/omron
footprint SKQGAKE010
pins: 1 COM_1, 2 COM_2, 3 NO_1, 4 NO_2

## B0505S-2W
designator U?
隔离电源模块; Manufacturer: JETEKPS(健特); Symbol: B0505S-2W_C387593; Add into BOM: yes; Conversion Type: DC-DC; Input Voltage(DC): 5V; Output Power: 2W; Output Current (Max): 400mA; Function: 升降压型; Insulated Voltage: 1.5kV; Conversion Efficiency: 84%; Maximum Capacitive Load: 2200uF; Device: B0505S-2W_C387593; LCSC Part Name: B0505S-2W; Supplier Part: C387593; Manufacturer Part: B0505S-2W; Supplier Footprint: 插件; JLCPCB Part Class: Extended Part; Datasheet: https://atta.szlcsc.com/upload/public/pdf/source/20190418/C387593_A852B6DE67BDB73E6C54F725DD16854E.pdf; Supplier: LCSC; Convert to PCB: yes; Output Voltage: 5V
footprint PWRM-TH_BXXXXS-2W
pins: 1 Vin, 2 GND, 4 0V, 6 +Vo

## B1603S
designator T?
百兆网络变压器; Manufacturer: CND-tek(磁联达); Add into BOM: yes; Turns Ratio: 1:1; port: 单口; rate: 100M; HI-POT: 1.5kV; Symbol: B1603S; Device: B1603S; Supplier: LCSC; Supplier Part: C3003215; Manufacturer Part: B1603S; JLCPCB Part Class: Extended Part; LCSC Part Name: B1603S; Supplier Footprint: SOIC-16-7.1mm; Datasheet: https://atta.szlcsc.com/upload/public/pdf/source/20220621/E46676EAD779E5D7558DAB86D017A6AD.pdf; Convert to PCB: yes; operating temperature: 0℃~+70℃
footprint SOIC-16_L12.7-W7.1-P1.27-LS9.5-BL
pins: 1 TD+, 2 CT, 3 TD-, 4 NC, 5 NC, 6 RD+, 7 CT, 8 RD-, 9 RX-, 10 CT, 11 RX+, 12 NC, 13 NC, 14 TX-, 15 NC, 16 TX+

## B82790C0/S0
designator T?  value B82790C0225N265  (hidden comment: B82790C0/S0)
共模电感; PCB DECAL: B82790C0/S0
footprint B82790C0$2F$S0
pins: 1, 2, 3, 4

## Balun
designator T?
视频/射频信号巴伦
footprint Balun_5P
pins: 1 IN+, 2 IN-, 3 OUT+, 4 OUTM, 5 OUT-

## BAT54C_KL3
designator D?
小功率双二极管
footprint SO-G3/C2.25 (SOT-23; 3 Leads; Body 3.0 x 2.5 mm, inc. leads (LxW max))
pins: 1, 2, 3

## BC847
designator Q?
NPN通用三极管; Published: 17-Sep-2003; LatestRevisionDate: 12-Dec-2006; LatestRevisionNote: IPC-7351 Footprint Added.; DatasheetVersion: 4-Feb-2002; PackageVersion: May-1999; PackageReference: SOT23; Publisher: Altium Limited; PackageDescription: 3-Pin SOT-23 Package 0.95 mm Pitch, 2.3 mm Lead Span; ComponentLink1Description: Manufacturer Link; ComponentLink1URL: http://www.semiconductors.philips.com/; ComponentLink2Description: Datasheet; ComponentLink2URL: http://www.semiconductors.philips.com/acrobat/datasheets/BC846_BC847_BC848_5.pdf
footprint SOT23-3L
pins: 1 B, 2 E, 3 C

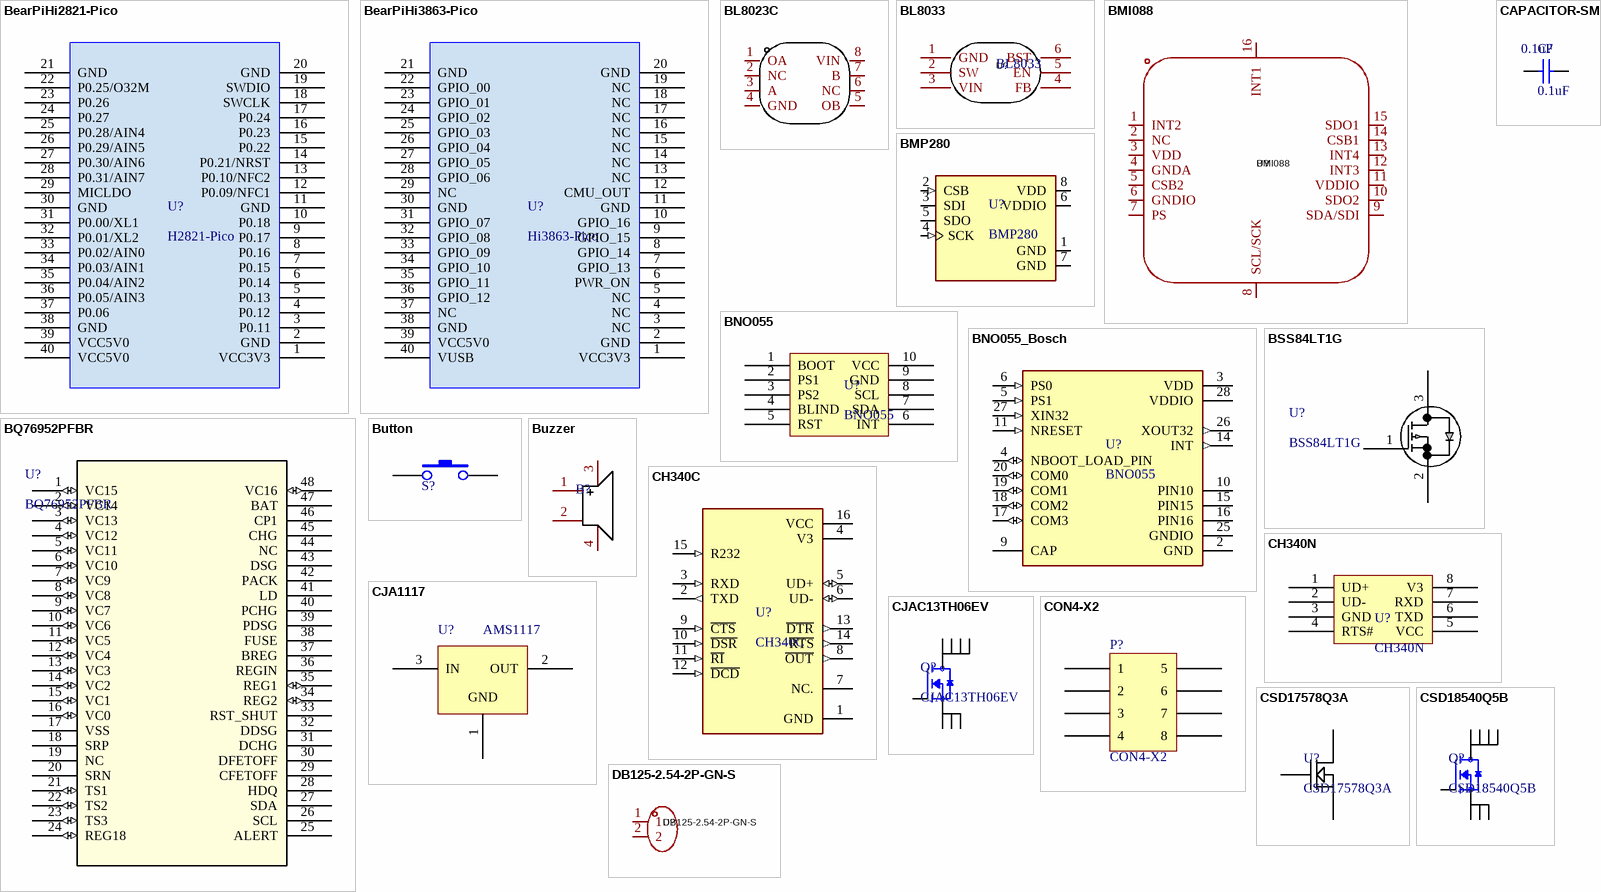
[diagram p3: symbols BearPiHi2821-Pico to DB125-2.54-2P-GN-S]

## BearPiHi2821-Pico
designator U?, comment H2821-Pico
海思WS21模块
footprint H2821-Pico
footprint H2821-Pico-SMT
pins: 1 VCC3V3, 2 GND, 3 P0.11, 4 P0.12, 5 P0.13, 6 P0.14, 7 P0.15, 8 P0.16, 9 P0.17, 10 P0.18, 11 GND, 12 P0.09/NFC1, 13 P0.10/NFC2, 14 P0.21/NRST, 15 P0.22, 16 P0.23, 17 P0.24, 18 SWCLK, 19 SWDIO, 20 GND, 21 GND, 22 P0.25/O32M, 23 P0.26, 24 P0.27, 25 P0.28/AIN4, 26 P0.29/AIN5, 27 P0.30/AIN6, 28 P0.31/AIN7, 29 MICLDO, 30 GND, 31 P0.00/XL1, 32 P0.01/XL2, 33 P0.02/AIN0, 34 P0.03/AIN1, 35 P0.04/AIN2, 36 P0.05/AIN3, 37 P0.06, 38 GND, 39 VCC5V0, 40 VCC5V0

## BearPiHi3863-Pico
designator U?, comment Hi3863-Pico
海思WS63模块
footprint H2821-Pico
footprint H2821-Pico-SMT
pins: 1 VCC3V3, 2 GND, 3 NC, 4 NC, 5 NC, 6 PWR_ON, 7 GPIO_13, 8 GPIO_14, 9 GPIO_15, 10 GPIO_16, 11 GND, 12 CMU_OUT, 13 NC, 14 NC, 15 NC, 16 NC, 17 NC, 18 NC, 19 NC, 20 GND, 21 GND, 22 GPIO_00, 23 GPIO_01, 24 GPIO_02, 25 GPIO_03, 26 GPIO_04, 27 GPIO_05, 28 GPIO_06, 29 NC, 30 GND, 31 GPIO_07, 32 GPIO_08, 33 GPIO_09, 34 GPIO_10, 35 GPIO_11, 36 GPIO_12, 37 NC, 38 GND, 39 VCC5V0, 40 VUSB

## BL8023C
designator U?  (value not drawn)
磁保持继电器驱动; Manufacturer: BL(上海贝岭); Add into BOM: yes; Symbol: BL8023C; Device: BL8023C; LCSC Part Name: 继电器驱动芯片; Supplier Part: C140619; Manufacturer Part: BL8023C; Supplier Footprint: SOP-8; JLCPCB Part Class: Extended Part; Datasheet: https://atta.szlcsc.com/upload/public/pdf/source/20171113/C140619_15105612940191115772.pdf; Supplier: LCSC; Convert to PCB: yes; Name: BL8023C
footprint SOP-8_L4.9-W3.9-P1.27-LS6.0-BL
pins: 1 OA, 2 NC, 3 A, 4 GND, 5 OB, 6 NC, 7 B, 8 VIN

## BL8033
designator U?
Buck; Manufacturer: SGMICRO(圣邦微); Name: SGM2028-3.3YN5G/TR; Add into BOM: yes; Output Type: 固定; Output Polarity: 正; Number of Outputs: 1; Maximum Input Voltage: 5.5V; Output Voltage: 3.3V; Dropout Voltage: 420mV@(500mA); Output Current: 500mA; Power Supply Rejection Ratio (PSRR): 77dB; Symbol: SGM2028-3.3YN5G/TR; Device: SGM2028-3.3YN5G/TR; LCSC Part Name: 正 Vin=5.5V Vout=3.3V 500mA 77dB; Supplier Part: C81088; Manufacturer Part: SGM2028-3.3YN5G/TR; Supplier Footprint: SOT-23-5; JLCPCB Part Class: Extended Part; Datasheet: https://atta.szlcsc.com/upload/public/pdf/source/20170704/1499151376719.pdf; Supplier: LCSC; Convert to PCB: yes
footprint SOT23-6 (SOT-23/SC-74A; 5 Leads; Body 3.1 x 3 mm, inc. leads (LxW max))
pins: 1 GND, 2 SW, 3 VIN, 4 FB, 5 EN, 6 BST

## BMI088
designator U?
Manufacturer: Bosch(博世); Add into BOM: yes; Sensor Type: 加速度计陀螺仪; Symbol: BMI088; Device: BMI088; LCSC Part Name: BMI088; Supplier Part: C194919; Manufacturer Part: BMI088; Supplier Footprint: LGA-16(3x4.5); JLCPCB Part Class: Extended Part; Datasheet: https://atta.szlcsc.com/upload/public/pdf/source/20180628/C194919_66CCF125FF968C218A4D358C68AC68D6.pdf; Supplier: LCSC; Convert to PCB: yes; Operating Temperature: -40℃~+85℃
footprint LGA-16_L4.5-W3.0-P0.50-BL
pins: 1 INT2, 2 NC, 3 VDD, 4 GNDA, 5 CSB2, 6 GNDIO, 7 PS, 8 SCL/SCK, 9 SDA/SDI, 10 SDO2, 11 VDDIO, 12 INT3, 13 INT4, 14 CSB1, 15 SDO1, 16 INT1

## BMP280
designator U?
BMP280 Absolute Barometric Pressure Sensor for Battery Powered Devices 2 x 2.5mm; Package: None; Availability: Unavailable; MP: BMP280; Value: *; Price: None
footprint XDCR_BMP280
pins: 1 GND (power), 2 CSB (in), 3 SDI (io), 4 SCK (in), 5 SDO (io), 6 VDDIO (power), 7 GND (power), 8 VDD (power)

## BNO055
designator U?
DFROBOT-BNO055九轴模块
footprint BNO055 (DFROBOT-BNO055模块)
pins: 1 BOOT, 2 PS1, 3 PS2, 4 BLIND, 5 RST, 6 INT, 7 SDA, 8 SCL, 9 GND, 10 VCC

## BNO055_Bosch
designator U?, comment BNO055
BNO055 9-axis Absolute Orientation Sensor ( SiP ) w/Sensors and Sensor Fusion; Package: None; Price: None; Value: *; MP: BNO055; Availability: Unavailable
footprint LGA28R50P4X10_380X520X100
pins: 2 GND (power), 3 VDD (power), 4 NBOOT_LOAD_PIN (io), 5 PS1 (in), 6 PS0 (in), 9 CAP, 10 PIN10 (power), 11 NRESET (in), 14 INT (out), 15 PIN15 (power), 16 PIN16 (power), 17 COM3 (io), 18 COM2 (io), 19 COM1 (io), 20 COM0 (io), 25 GNDIO (power), 26 XOUT32 (out), 27 XIN32 (in), 28 VDDIO (power)

## BQ76952PFBR
designator U?
BMS; Mfr_Name: Texas Instruments; Copyright: Copyright (C) 2022 Ultra Librarian. All rights reserved.; Manufacturer_Part_Number: BQ76952PFBR; RefDes: RefDes; Type: DEV
footprint QFP_2PFBR_TEX
pins: 1 VC15 (io), 2 VC14 (io), 3 VC13 (io), 4 VC12 (io), 5 VC11 (io), 6 VC10 (io), 7 VC9 (io), 8 VC8 (io), 9 VC7 (io), 10 VC6 (io), 11 VC5 (io), 12 VC4 (io), 13 VC3 (io), 14 VC2 (io), 15 VC1 (io), 16 VC0 (io), 17 VSS, 18 SRP, 19 NC, 20 SRN, 21 TS1 (io), 22 TS2 (io), 23 TS3 (io), 24 REG18 (io), 25 ALERT, 26 SCL, 27 SDA, 28 HDQ, 29 CFETOFF, 30 DFETOFF, 31 DCHG, 32 DDSG, 33 RST_SHUT, 34 REG2 (io), 35 REG1 (io), 36 REGIN, 37 BREG, 38 FUSE, 39 PDSG, 40 PCHG, 41 LD, 42 PACK, 43 DSG, 44 NC, 45 CHG, 46 CP1, 47 BAT, 48 VC16 (io)

## BSS84LT1G
designator U?
信号PMOS; Mfr_Name: onsemi; Copyright: Copyright (C) 2022 Ultra Librarian. All rights reserved.; Manufacturer_Part_Number: BSS84LT1G; RefDes: RefDes; Type: DEV
footprint SOT23-3L
pins: 1 G, 2 S, 3 D

## Button
designator S?  (value not drawn)
按键
footprint SWT3*4
pins: 1, 2

## Buzzer
designator B?  (value not drawn)
蜂鸣器
footprint BUZ-SMD_4P-L7.5-W7.5-P6.20-TL-1
footprint BUZ-SMD_4P-L8.5-W8.5-BR-1
pins: 1, 2, 3, 4

## CAPACITOR-SMD
designator C?, comment 0.1uF
贴片电容; value: 0.1uF
footprint 0402-CAP (Chip Capacitor, 2-Leads, Body 1.00x0.50mm, IPC Medium Density)
footprint 0603-CAP (无极性贴片电容)
footprint 0805-CAP (无极性贴片电容)
pins: 1, 2

## CH340C
designator U?
USB串口芯片; MF: WCH; Price: None; Availability: Not in stock; MP: CH340C; Package: None; SnapEDA_Link: https://www.snapeda.com/parts/CH340C/WCH/view-part/?ref=snap; Check_prices: https://www.snapeda.com/parts/CH340C/WCH/view-part/?ref=eda; Value: *
footprint SOIC127P600X180-16N
pins: 1 GND (power), 2 TXD (out), 3 RXD (in), 4 V3 (power), 5 UD+ (io), 6 UD- (io), 7 NC., 8 ~{OUT} (out), 9 ~{CTS} (in), 10 ~{DSR} (in), 11 ~{RI} (in), 12 ~{DCD} (in), 13 ~{DTR} (out), 14 ~{RTS} (out), 15 R232 (in), 16 VCC (power)

## CH340N
designator U?
USB串口芯片
footprint SOP-8_L4.9-W3.9-P1.27-LS6.0-BL
pins: 1 UD+, 2 UD-, 3 GND, 4 RTS#, 5 VCC, 6 TXD, 7 RXD, 8 V3

## CJA1117
designator U?, comment AMS1117
LDO
footprint SOT89 (SOT89, 3-Leads, Body 4.50x2.45mm, Pitch 1.50mm, Lead Span 4.1mm, IPC Medium Density)
pins: 1 GND, 2 OUT, 3 IN

## CJAC13TH06EV
designator Q?
NMOS; MF: Texas Instruments; MP: CSD18540Q5B; SnapEDA_Link: https://www.snapeda.com/parts/CSD18540Q5B/Texas+Instruments/view-part/?ref=snap; Purchase-URL: https://pricing.snapeda.com/search/part/CSD18540Q5B/?ref=eda; Package: VSON-CLIP-8 Texas Instruments; Price: None; Availability: In Stock; Check_prices: https://www.snapeda.com/parts/CSD18540Q5B/Texas+Instruments/view-part/?ref=eda; Value: *
footprint VSON-CLIP-8(6x5)
pins: 1 S, 2 S, 3 S, 4 G, 5 D, 6 D, 7 D, 8 D

## CON4-X2
designator P?
排针-侧 2*4
footprint 2X4P-FANKE
pins: 1, 2, 3, 4, 5, 6, 7, 8

## CSD17578Q3A
designator U?
功率NMOS; Mfr_Name: Texas Instruments; REFDES_2: RefDes; TYPE_2: TYPE; VALUE_2: Value; Copyright: Copyright (C) 2022 Ultra Librarian. All rights reserved.; Manufacturer_Part_Number: CSD17578Q3A; RefDes: RefDes; Type: DEV
footprint DFN-8(3.3X3.3)
pins: 1 Source, 2 Source, 3 Source, 4 Gate, 5 Drain

## CSD18540Q5B
designator Q?
功率NMOS 60V,2.2mOhm; MF: Texas Instruments; SnapEDA_Link: https://www.snapeda.com/parts/CSD18540Q5B/Texas+Instruments/view-part/?ref=snap; Purchase-URL: https://pricing.snapeda.com/search/part/CSD18540Q5B/?ref=eda; Package: VSON-CLIP-8 Texas Instruments; MP: CSD18540Q5B; Price: None; Availability: In Stock; Check_prices: https://www.snapeda.com/parts/CSD18540Q5B/Texas+Instruments/view-part/?ref=eda; Value: *
footprint VSON-CLIP-8(6x5)
pins: 1 S, 2 S, 3 S, 4 G, 5 D, 6 D, 7 D, 8 D

## DB125-2.54-2P-GN-S
designator U?
KF127-2.54; Manufacturer: DORABO(地博电气); Add into BOM: yes; Structure: 1x2P; Pitch: 2.54mm; Current Rating (Max): 8A; Voltage Rating (Max): 130V; Wire Gauge - AWG: 18~26; Wire Gauge - mm2: 0.5~1; Number of PINs Per Row: 2; Symbol: DB125-2.54-2P-GN; Device: DB125-2.54-2P-GN-S; LCSC Part Name: 2.54mm 1x2P 排数:1 每排P数:2 直插; Supplier Part: C918120; Manufacturer Part: DB125-2.54-2P-GN-S; Supplier Footprint: 插件,P=2.54mm; JLCPCB Part Class: Extended Part; Datasheet: https://atta.szlcsc.com/upload/public/pdf/source/20230106/BCD3A0BE1EB95DC3E813F1745F022035.pdf; Supplier: LCSC; Convert to PCB: yes; Color: 绿色; Mounting Style: 直插; Number of Pins: 2P; Number of Rows: 1; Operating Temperature Range: -40℃~+105℃
footprint DB125-2.54-2P-GN (KF127-2.54)
pins: 1, 2

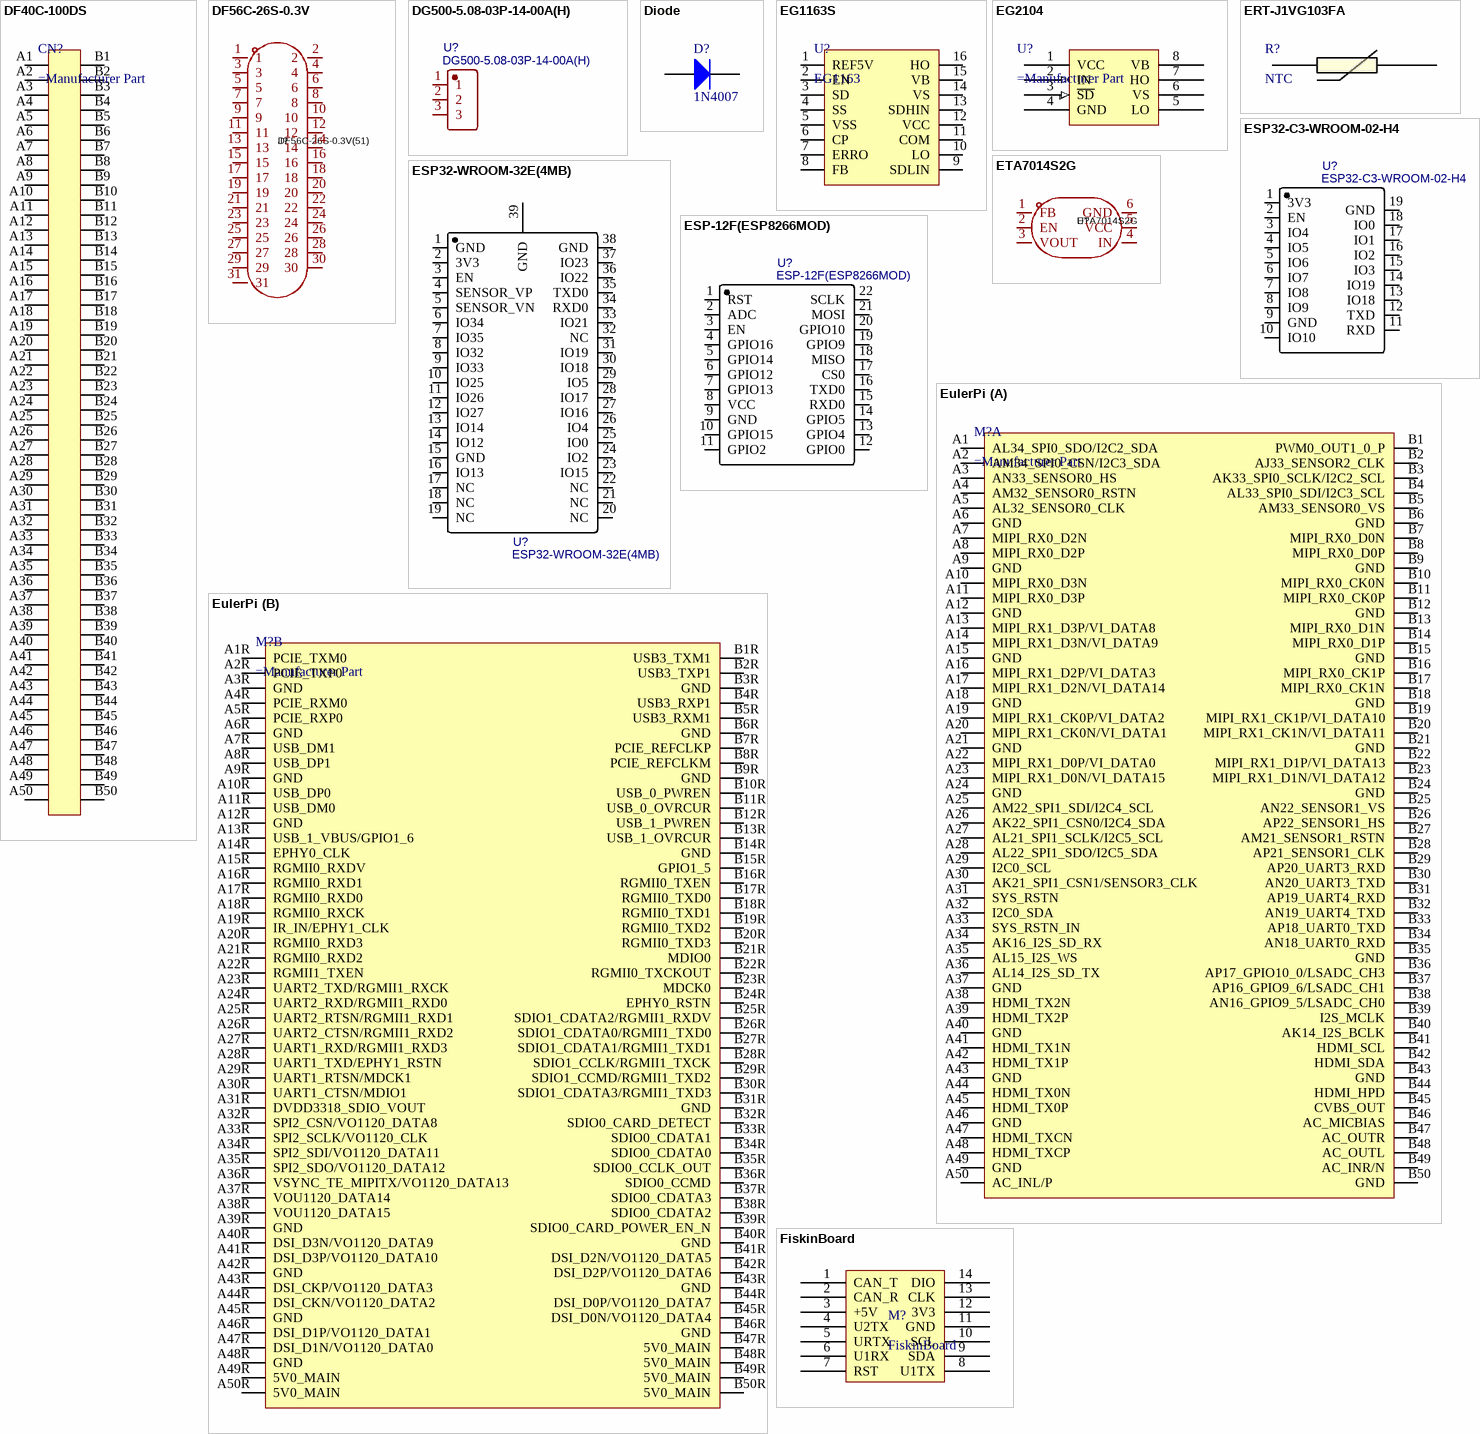
[diagram p4: symbols DF40C-100DS to FiskinBoard]

## DF40C-100DS
designator CN?
2X50P BTB
footprint DF40C-100DS-0_4
pins: A1, A2, A3, A4, A5, A6, A7, A8, A9, A10, A11, A12, A13, A14, A15, A16, A17, A18, A19, A20, A21, A22, A23, A24, A25, A26, A27, A28, A29, A30, A31, A32, A33, A34, A35, A36, A37, A38, A39, A40, A41, A42, A43, A44, A45, A46, A47, A48, A49, A50, B1, B2, B3, B4, B5, B6, B7, B8, B9, B10, B11, B12, B13, B14, B15, B16, B17, B18, B19, B20, B21, B22, B23, B24, B25, B26, B27, B28, B29, B30, B31, B32, B33, B34, B35, B36, B37, B38, B39, B40, B41, B42, B43, B44, B45, B46, B47, B48, B49, B50

## DF56C-26S-0.3V
designator J?, comment DF56C-26S-0.3V(51)
C5338332; Manufacturer: HRS(广濑); Symbol: DF56C-26S-0.3V(51)_C5338332; Add into BOM: yes; Device: DF56C-26S-0.3V(51)_C5338332; LCSC Part Name: DF56C-26S-0.3V(51); Supplier Part: C5338332; Manufacturer Part: DF56C-26S-0.3V(51); Supplier Footprint: SMD,P=0.3mm; JLCPCB Part Class: Extended Part; Datasheet: https://atta.szlcsc.com/upload/public/pdf/source/20221219/44C927CDEC8475048CBD03EDCFCE7300.pdf; Supplier: LCSC; Convert to PCB: yes
footprint CONN-SMD_26P-P0.30_DF56C-26S-0.3V51
pins: 1, 2, 3, 4, 5, 6, 7, 8, 9, 10, 11, 12, 13, 14, 15, 16, 17, 18, 19, 20, 21, 22, 23, 24, 25, 26, 27, 28, 29, 30, 31

## DG500-5.08-03P-14-00A(H)
designator U?
KF127-5.08 3P; BOM_Manufacturer: DEGSON; Contributor: LCSC; BOM_Paste Type: expand; BOM_Assembly Type: manualWeld; BOM_Supplier: LCSC; BOM_Supplier Part: C581322; BOM_Manufacturer Part: DG500-5.08-03P-14-00A(H); spicePre: U; spiceSymbolName: DG500-5.08-03P-14-00A(H)
footprint DG500-5.08-03P-14-00A(H)
pins: 1, 2, 3

## Diode
designator D?, comment 1N4007
footprint SOD323 (SODFL, 2-Leads, Body 1.30x2.60mm, IPC Medium Density)
footprint SOD123 (1206)
footprint SOD123F
footprint SOD323F (SODFL, 2-Leads, Body 1.30x2.60mm, IPC Medium Density)
footprint SOD523 (0603)
footprint SOD-923
footprint SOD80 (LL34)
footprint SOD-882
pins: 1 A, 2 K

## EG1163S
designator U?, comment EG1163
footprint SOP16 (SOP, 16-Leads, Body 9.90x3.90mm, Pitch 1.27mm, IPC Medium Density)
pins: 1 REF5V, 2 EN, 3 SD, 4 SS, 5 VSS, 6 CP, 7 ERRO, 8 FB, 9 SDLIN, 10 LO, 11 COM, 12 VCC, 13 SDHIN, 14 VS, 15 VB, 16 HO

## EG2104
designator U?
footprint SOP-8_L4.9-W3.9-P1.27-LS6.0-BL
pins: 1 VCC (power), 2 IN (in), 3 ~{SD} (in), 4 GND (power), 5 LO, 6 VS, 7 HO, 8 VB (power)

## ERT-J1VG103FA
designator R?, comment NTC
NTC负温度系数电阻; Mfr_Name: Panasonic; Manufacturer_Part_Number: ERT-J1VG103FA; Copyright: Copyright (C) 2022 Ultra Librarian. All rights reserved.; RefDes: RefDes; Type: DEV
footprint ERT-J1VG103FA_PAN-L
pins: 1, 2

## ESP32-C3-WROOM-02-H4
designator U?
BOM_Manufacturer: null; Contributor: LCSC; BOM_Supplier: LCSC; BOM_Supplier Part: C2944070; BOM_Manufacturer Part: ESP32-C3-WROOM-02-H4; BOM_JLCPCB Part Class: Extended Part; spicePre: U; spiceSymbolName: ESP32-C3-WROOM-02-H4
footprint ESP32-C3-WROOM-02-H4
pins: 1 3V3, 2 EN, 3 IO4, 4 IO5, 5 IO6, 6 IO7, 7 IO8, 8 IO9, 9 GND, 10 IO10, 11 RXD, 12 TXD, 13 IO18, 14 IO19, 15 IO3, 16 IO2, 17 IO1, 18 IO0, 19 GND

## ESP32-WROOM-32E(4MB)
designator U?
BOM_Manufacturer: Espressif Systems; Contributor: LCSC; BOM_Paste Type: expand; BOM_Supplier: LCSC; BOM_Supplier Part: C701341; BOM_Manufacturer Part: ESP32-WROOM-32E(4MB); spicePre: U; spiceSymbolName: ESP32-WROOM-32E(4MB)
footprint ESP32-WROOM-32E
pins: 1 GND, 2 3V3, 3 EN, 4 SENSOR_VP, 5 SENSOR_VN, 6 IO34, 7 IO35, 8 IO32, 9 IO33, 10 IO25, 11 IO26, 12 IO27, 13 IO14, 14 IO12, 15 GND, 16 IO13, 17 NC, 18 NC, 19 NC, 20 NC, 21 NC, 22 NC, 23 IO15, 24 IO2, 25 IO0, 26 IO4, 27 IO16, 28 IO17, 29 IO5, 30 IO18, 31 IO19, 32 NC, 33 IO21, 34 RXD0, 35 TXD0, 36 IO22, 37 IO23, 38 GND, 39 GND

## ESP-12F(ESP8266MOD)
designator U?
BOM_Manufacturer: Ai-Thinker; BOM_Supplier: LCSC; BOM_Manufacturer Part: ESP-12F(ESP8266MOD); BOM_Supplier Part: C82891; BOM_JLCPCB Part Class: Extended Part; spicePre: U; spiceSymbolName: ESP-12F(ESP8266MOD)
footprint ESP-12F(ESP8266MOD)
pins: 1 RST, 2 ADC, 3 EN, 4 GPIO16, 5 GPIO14, 6 GPIO12, 7 GPIO13, 8 VCC, 9 GND, 10 GPIO15, 11 GPIO2, 12 GPIO0, 13 GPIO4, 14 GPIO5, 15 RXD0, 16 TXD0, 17 CS0, 18 MISO, 19 GPIO9, 20 GPIO10, 21 MOSI, 22 SCLK

## ETA7014S2G
designator U?
Manufacturer: ETA(钰泰）; Add into BOM: yes; Symbol: ETA7014S2G; Device: ETA7014S2G; LCSC Part Name: ETA7014S2G; Supplier Part: C7465500; Manufacturer Part: ETA7014S2G; Supplier Footprint: SOT23-6; JLCPCB Part Class: Extended Part; Datasheet: https://atta.szlcsc.com/upload/public/pdf/source/20230717/2B472CB1BF6DFB47746E529AC2956F59.pdf; Supplier: LCSC; Convert to PCB: yes
footprint SOT-23-6_L2.9-W1.6-P0.95-LS2.8-BR
pins: 1 FB, 2 EN, 3 VOUT, 4 IN, 5 VCC, 6 GND

## EulerPi
designator M?
欧拉派核心板接口
footprint DF40C-100DS-EULERPI (欧拉派核心板引脚)
part A pins: A1 AL34_SPI0_SDO/I2C2_SDA "1V8", A2 AM34_SPI0_CSN/I2C3_SDA "1V8", A3 AN33_SENSOR0_HS "1V8", A4 AM32_SENSOR0_RSTN "1V8", A5 AL32_SENSOR0_CLK "1V8", A6 GND, A7 MIPI_RX0_D2N "MIPI", A8 MIPI_RX0_D2P "MIPI", A9 GND, A10 MIPI_RX0_D3N "MIPI", A11 MIPI_RX0_D3P "MIPI", A12 GND, A13 MIPI_RX1_D3P/VI_DATA8 "MIPI", A14 MIPI_RX1_D3N/VI_DATA9 "MIPI", A15 GND, A16 MIPI_RX1_D2P/VI_DATA3 "MIPI", A17 MIPI_RX1_D2N/VI_DATA14 "MIPI", A18 GND, A19 MIPI_RX1_CK0P/VI_DATA2 "MIPI", A20 MIPI_RX1_CK0N/VI_DATA1 "MIPI", A21 GND, A22 MIPI_RX1_D0P/VI_DATA0 "MIPI", A23 MIPI_RX1_D0N/VI_DATA15 "MIPI", A24 GND, A25 AM22_SPI1_SDI/I2C4_SCL "1V8", A26 AK22_SPI1_CSN0/I2C4_SDA "1V8", A27 AL21_SPI1_SCLK/I2C5_SCL "1V8", A28 AL22_SPI1_SDO/I2C5_SDA "1V8", A29 I2C0_SCL "3V3", A30 AK21_SPI1_CSN1/SENSOR3_CLK "1V8", A31 SYS_RSTN "1V8", A32 I2C0_SDA "3V3", A33 SYS_RSTN_IN "1V8", A34 AK16_I2S_SD_RX "1V8", A35 AL15_I2S_WS "1V8", A36 AL14_I2S_SD_TX "1V8", A37 GND, A38 HDMI_TX2N "HDMI", A39 HDMI_TX2P "HDMI", A40 GND, A41 HDMI_TX1N "HDMI", A42 HDMI_TX1P "HDMI", A43 GND, A44 HDMI_TX0N "HDMI", A45 HDMI_TX0P "HDMI", A46 GND, A47 HDMI_TXCN "HDMI", A48 HDMI_TXCP "HDMI", A49 GND, A50 AC_INL/P "AC", B1 PWM0_OUT1_0_P "PWM", B2 AJ33_SENSOR2_CLK "1V8", B3 AK33_SPI0_SCLK/I2C2_SCL "1V8", B4 AL33_SPI0_SDI/I2C3_SCL "1V8", B5 AM33_SENSOR0_VS "1V8", B6 GND, B7 MIPI_RX0_D0N "MIPI", B8 MIPI_RX0_D0P "MIPI", B9 GND, B10 MIPI_RX0_CK0N "MIPI", B11 MIPI_RX0_CK0P "MIPI", B12 GND, B13 MIPI_RX0_D1N "MIPI", B14 MIPI_RX0_D1P "MIPI", B15 GND, B16 MIPI_RX0_CK1P "MIPI", B17 MIPI_RX0_CK1N "MIPI", B18 GND, B19 MIPI_RX1_CK1P/VI_DATA10 "MIPI", B20 MIPI_RX1_CK1N/VI_DATA11 "MIPI", B21 GND, B22 MIPI_RX1_D1P/VI_DATA13 "MIPI", B23 MIPI_RX1_D1N/VI_DATA12 "MIPI", B24 GND, B25 AN22_SENSOR1_VS "1V8", B26 AP22_SENSOR1_HS "1V8", B27 AM21_SENSOR1_RSTN "1V8", B28 AP21_SENSOR1_CLK "1V8", B29 AP20_UART3_RXD "1V8", B30 AN20_UART3_TXD "1V8", B31 AP19_UART4_RXD "1V8", B32 AN19_UART4_TXD "1V8", B33 AP18_UART0_TXD "1V8", B34 AN18_UART0_RXD "1V8", B35 GND, B36 AP17_GPIO10_0/LSADC_CH3 "1V8", B37 AP16_GPIO9_6/LSADC_CH1 "1V8", B38 AN16_GPIO9_5/LSADC_CH0 "1V8", B39 I2S_MCLK "1V8", B40 AK14_I2S_BCLK "1V8", B41 HDMI_SCL "HDMI", B42 HDMI_SDA "HDMI", B43 GND, B44 HDMI_HPD "HDMI", B45 CVBS_OUT "ANALOG", B46 AC_MICBIAS "AC", B47 AC_OUTR "AC", B48 AC_OUTL "AC", B49 AC_INR/N "AC", B50 GND
part B pins: A1R PCIE_TXM0 "PCIE", A2R PCIE_TXP0 "PCIE", A3R GND, A4R PCIE_RXM0 "PCIE", A5R PCIE_RXP0 "PCIE", A6R GND, A7R USB_DM1 "USB", A8R USB_DP1 "USB", A9R GND, A10R USB_DP0 "USB", A11R USB_DM0 "USB", A12R GND, A13R USB_1_VBUS/GPIO1_6 "5V0", A14R EPHY0_CLK "3V3", A15R RGMII0_RXDV "3V3", A16R RGMII0_RXD1 "3V3", A17R RGMII0_RXD0 "3V3", A18R RGMII0_RXCK "3V3", A19R IR_IN/EPHY1_CLK "3V3", A20R RGMII0_RXD3 "3V3", A21R RGMII0_RXD2 "3V3", A22R RGMII1_TXEN "3V3", A23R UART2_TXD/RGMII1_RXCK "3V3", A24R UART2_RXD/RGMII1_RXD0 "3V3", A25R UART2_RTSN/RGMII1_RXD1 "3V3", A26R UART2_CTSN/RGMII1_RXD2 "3V3", A27R UART1_RXD/RGMII1_RXD3 "3V3", A28R UART1_TXD/EPHY1_RSTN "3V3", A29R UART1_RTSN/MDCK1 "3V3", A30R UART1_CTSN/MDIO1 "3V3", A31R DVDD3318_SDIO_VOUT "3V3", A32R SPI2_CSN/VO1120_DATA8 "1V8", A33R SPI2_SCLK/VO1120_CLK "1V8", A34R SPI2_SDI/VO1120_DATA11 "1V8", A35R SPI2_SDO/VO1120_DATA12 "1V8", A36R VSYNC_TE_MIPITX/VO1120_DATA13 "1V8", A37R VOU1120_DATA14 "1V8", A38R VOU1120_DATA15 "1V8", A39R GND, A40R DSI_D3N/VO1120_DATA9 "1V8", A41R DSI_D3P/VO1120_DATA10 "1V8", A42R GND, A43R DSI_CKP/VO1120_DATA3 "1V8", A44R DSI_CKN/VO1120_DATA2 "1V8", A45R GND, A46R DSI_D1P/VO1120_DATA1 "1V8", A47R DSI_D1N/VO1120_DATA0 "1V8", A48R GND, A49R 5V0_MAIN "5V0", A50R 5V0_MAIN "5V0", B1R USB3_TXM1 "USB", B2R USB3_TXP1 "USB", B3R GND, B4R USB3_RXP1 "USB", B5R USB3_RXM1 "USB", B6R GND, B7R PCIE_REFCLKP "PCIE", B8R PCIE_REFCLKM "PCIE", B9R GND, B10R USB_0_PWREN "USB", B11R USB_0_OVRCUR "USB", B12R USB_1_PWREN "USB", B13R USB_1_OVRCUR "USB", B14R GND, B15R GPIO1_5 "1V8", B16R RGMII0_TXEN "3V3", B17R RGMII0_TXD0 "3V3", B18R RGMII0_TXD1 "3V3", B19R RGMII0_TXD2 "3V3", B20R RGMII0_TXD3 "3V3", B21R MDIO0 "3V3", B22R RGMII0_TXCKOUT "3V3", B23R MDCK0 "3V3", B24R EPHY0_RSTN "3V3", B25R SDIO1_CDATA2/RGMII1_RXDV "3V3", B26R SDIO1_CDATA0/RGMII1_TXD0 "3V3", B27R SDIO1_CDATA1/RGMII1_TXD1 "3V3", B28R SDIO1_CCLK/RGMII1_TXCK "3V3", B29R SDIO1_CCMD/RGMII1_TXD2 "3V3", B30R SDIO1_CDATA3/RGMII1_TXD3 "3V3", B31R GND, B32R SDIO0_CARD_DETECT "3V3", B33R SDIO0_CDATA1 "3V3", B34R SDIO0_CDATA0 "3V3", B35R SDIO0_CCLK_OUT "3V3", B36R SDIO0_CCMD "3V3", B37R SDIO0_CDATA3 "3V3", B38R SDIO0_CDATA2 "3V3", B39R SDIO0_CARD_POWER_EN_N "3V3", B40R GND, B41R DSI_D2N/VO1120_DATA5 "1V8", B42R DSI_D2P/VO1120_DATA6 "1V8", B43R GND, B44R DSI_D0P/VO1120_DATA7 "1V8", B45R DSI_D0N/VO1120_DATA4 "1V8", B46R GND, B47R 5V0_MAIN "5V0", B48R 5V0_MAIN "5V0", B49R 5V0_MAIN "5V0", B50R 5V0_MAIN "5V0"

## FiskinBoard
designator M?
Fiskin传感器解算板
footprint SensorBoardPro (常用传感器解算板)
pins: 1 CAN_T, 2 CAN_R, 3 +5V, 4 U2TX, 5 URTX, 6 U1RX, 7 RST, 8 U1TX, 9 SDA, 10 SCL, 11 GND, 12 3V3, 13 CLK, 14 DIO

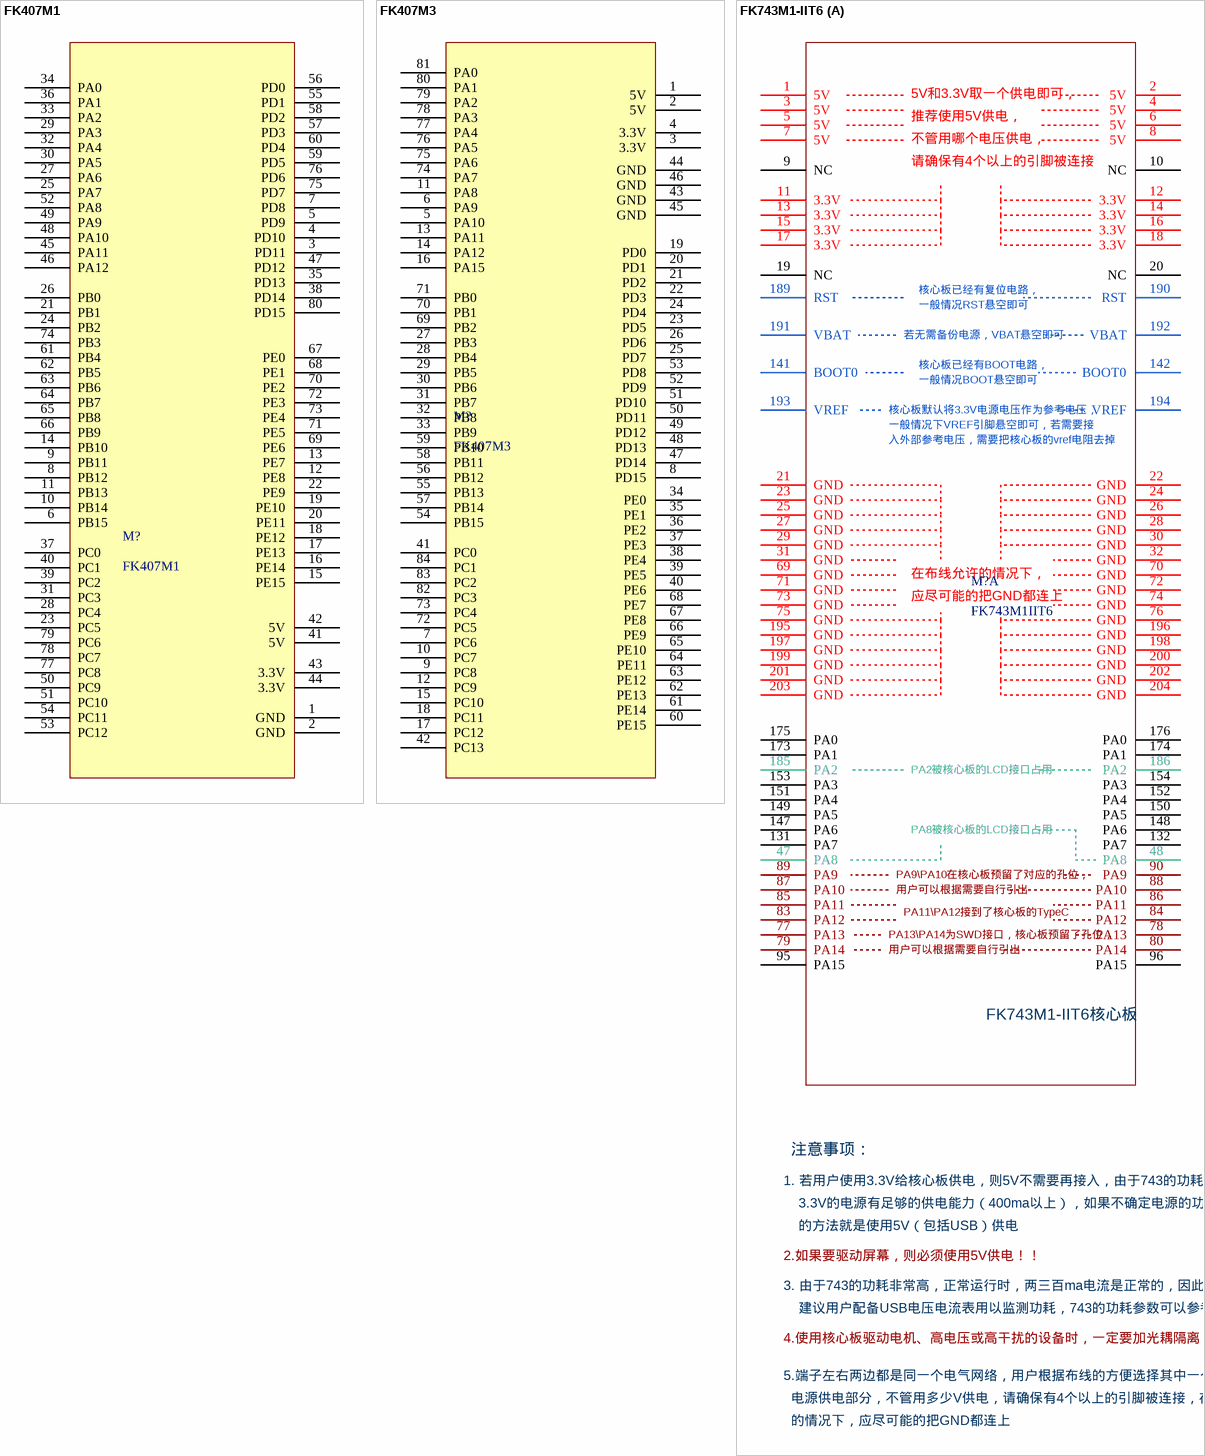
[diagram p5: symbols FK407M1 to FK743M1-IIT6]

## FK407M1
designator M?
footprint FK407M1
pins: 1 GND, 2 GND, 3 PD11, 4 PD10, 5 PD9, 6 PB15, 7 PD8, 8 PB12, 9 PB11, 10 PB14, 11 PB13, 12 PE8, 13 PE7, 14 PB10, 15 PE15, 16 PE14, 17 PE13, 18 PE12, 19 PE10, 20 PE11, 21 PB1, 22 PE9, 23 PC5, 24 PB2, 25 PA7, 26 PB0, 27 PA6, 28 PC4, 29 PA3, 30 PA5, 31 PC3, 32 PA4, 33 PA2, 34 PA0, 35 PD13, 36 PA1, 37 PC0, 38 PD14, 39 PC2, 40 PC1, 41 5V, 42 5V, 43 3.3V, 44 3.3V, 45 PA11, 46 PA12, 47 PD12, 48 PA10, 49 PA9, 50 PC9, 51 PC10, 52 PA8, 53 PC12, 54 PC11, 55 PD1, 56 PD0, 57 PD3, 58 PD2, 59 PD5, 60 PD4, 61 PB4, 62 PB5, 63 PB6, 64 PB7, 65 PB8, 66 PB9, 67 PE0, 68 PE1, 69 PE6, 70 PE2, 71 PE5, 72 PE3, 73 PE4, 74 PB3, 75 PD7, 76 PD6, 77 PC8, 78 PC7, 79 PC6, 80 PD15

## FK407M3
designator M?
footprint FK407M3模块
pins: 1 5V, 2 5V, 3 3.3V, 4 3.3V, 5 PA10, 6 PA9, 7 PC6, 8 PD15, 9 PC8, 10 PC7, 11 PA8, 12 PC9, 13 PA11, 14 PA12, 15 PC10, 16 PA15, 17 PC12, 18 PC11, 19 PD0, 20 PD1, 21 PD2, 22 PD3, 23 PD5, 24 PD4, 25 PD7, 26 PD6, 27 PB3, 28 PB4, 29 PB5, 30 PB6, 31 PB7, 32 PB8, 33 PB9, 34 PE0, 35 PE1, 36 PE2, 37 PE3, 38 PE4, 39 PE5, 40 PE6, 41 PC0, 42 PC13, 43 GND, 44 GND, 45 GND, 46 GND, 47 PD14, 48 PD13, 49 PD12, 50 PD11, 51 PD10, 52 PD9, 53 PD8, 54 PB15, 55 PB13, 56 PB12, 57 PB14, 58 PB11, 59 PB10, 60 PE15, 61 PE14, 62 PE13, 63 PE12, 64 PE11, 65 PE10, 66 PE9, 67 PE8, 68 PE7, 69 PB2, 70 PB1, 71 PB0, 72 PC5, 73 PC4, 74 PA7, 75 PA6, 76 PA5, 77 PA4, 78 PA3, 79 PA2, 80 PA1, 81 PA0, 82 PC3, 83 PC2, 84 PC1

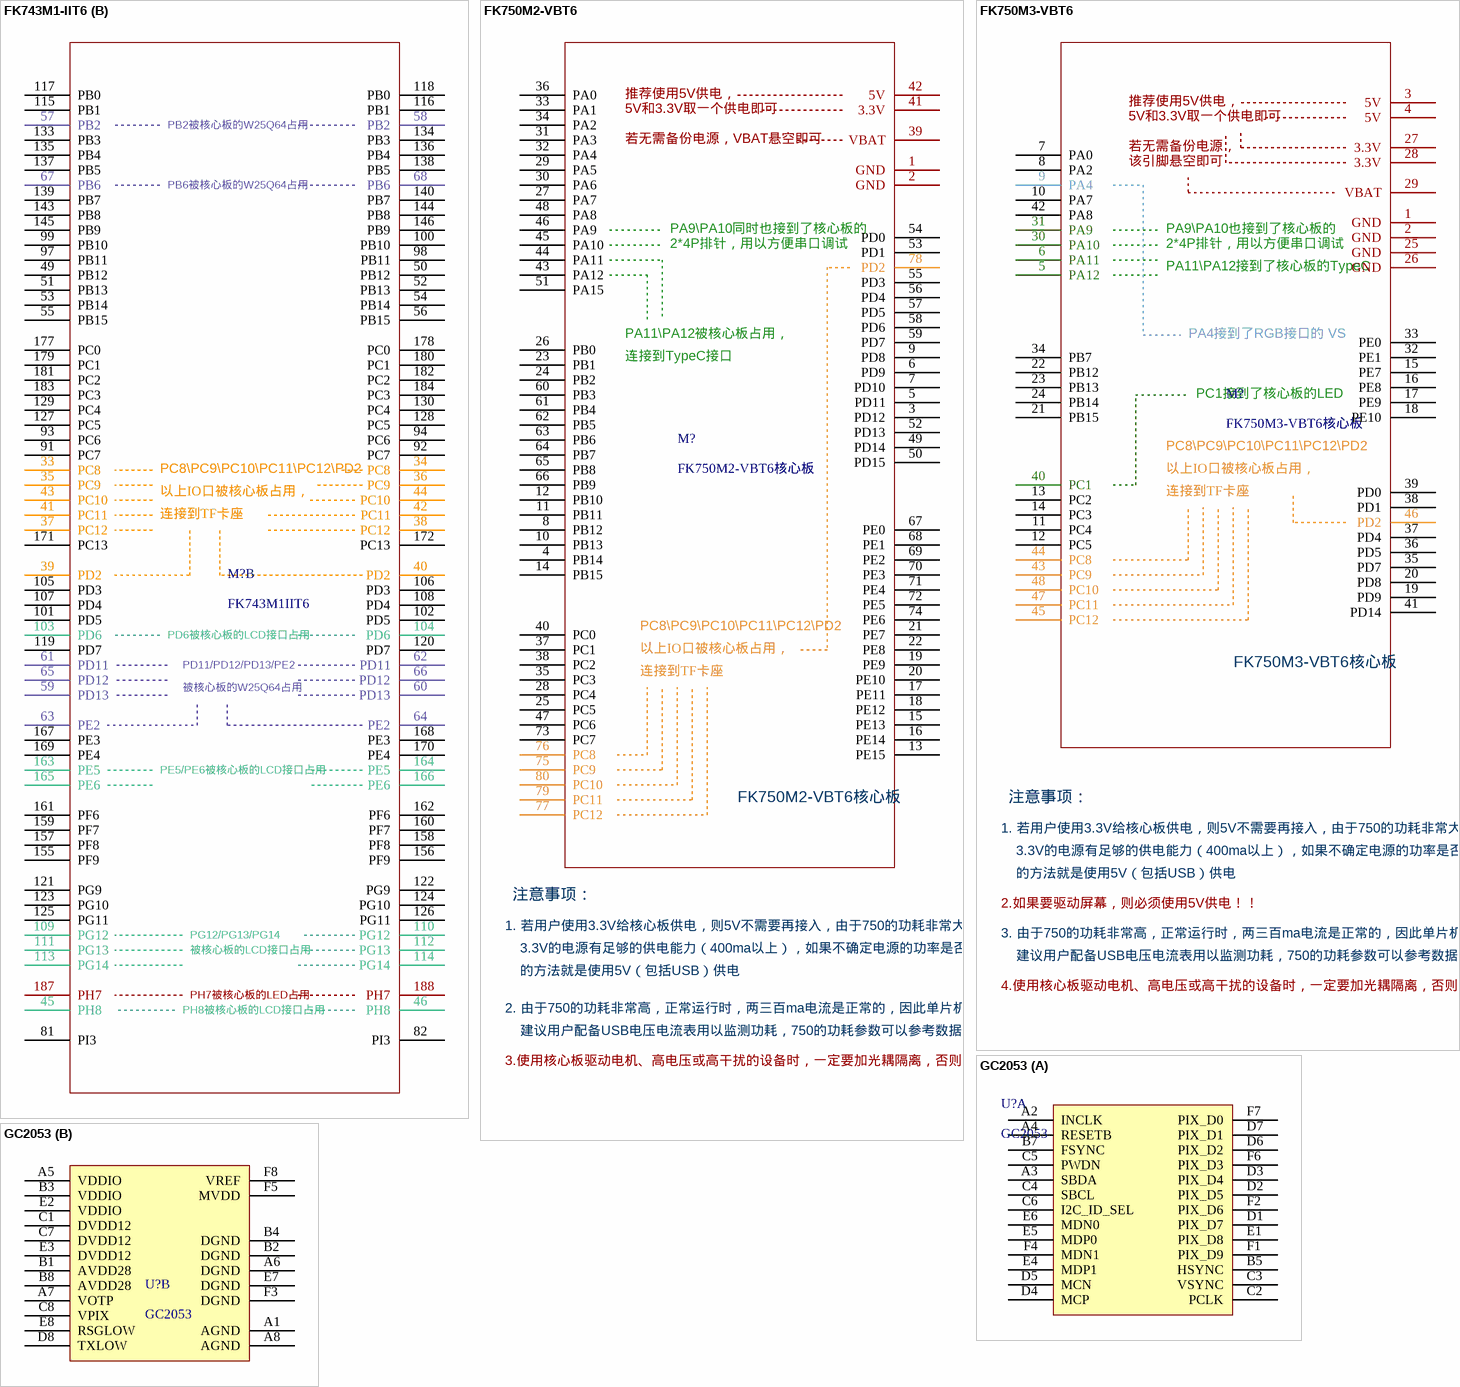
[diagram p6: symbols FK743M1-IIT6 to GC2053]